# Altium integrated library National Semiconductor ADC.IntLib: 538 symbols (part 6 of 19)
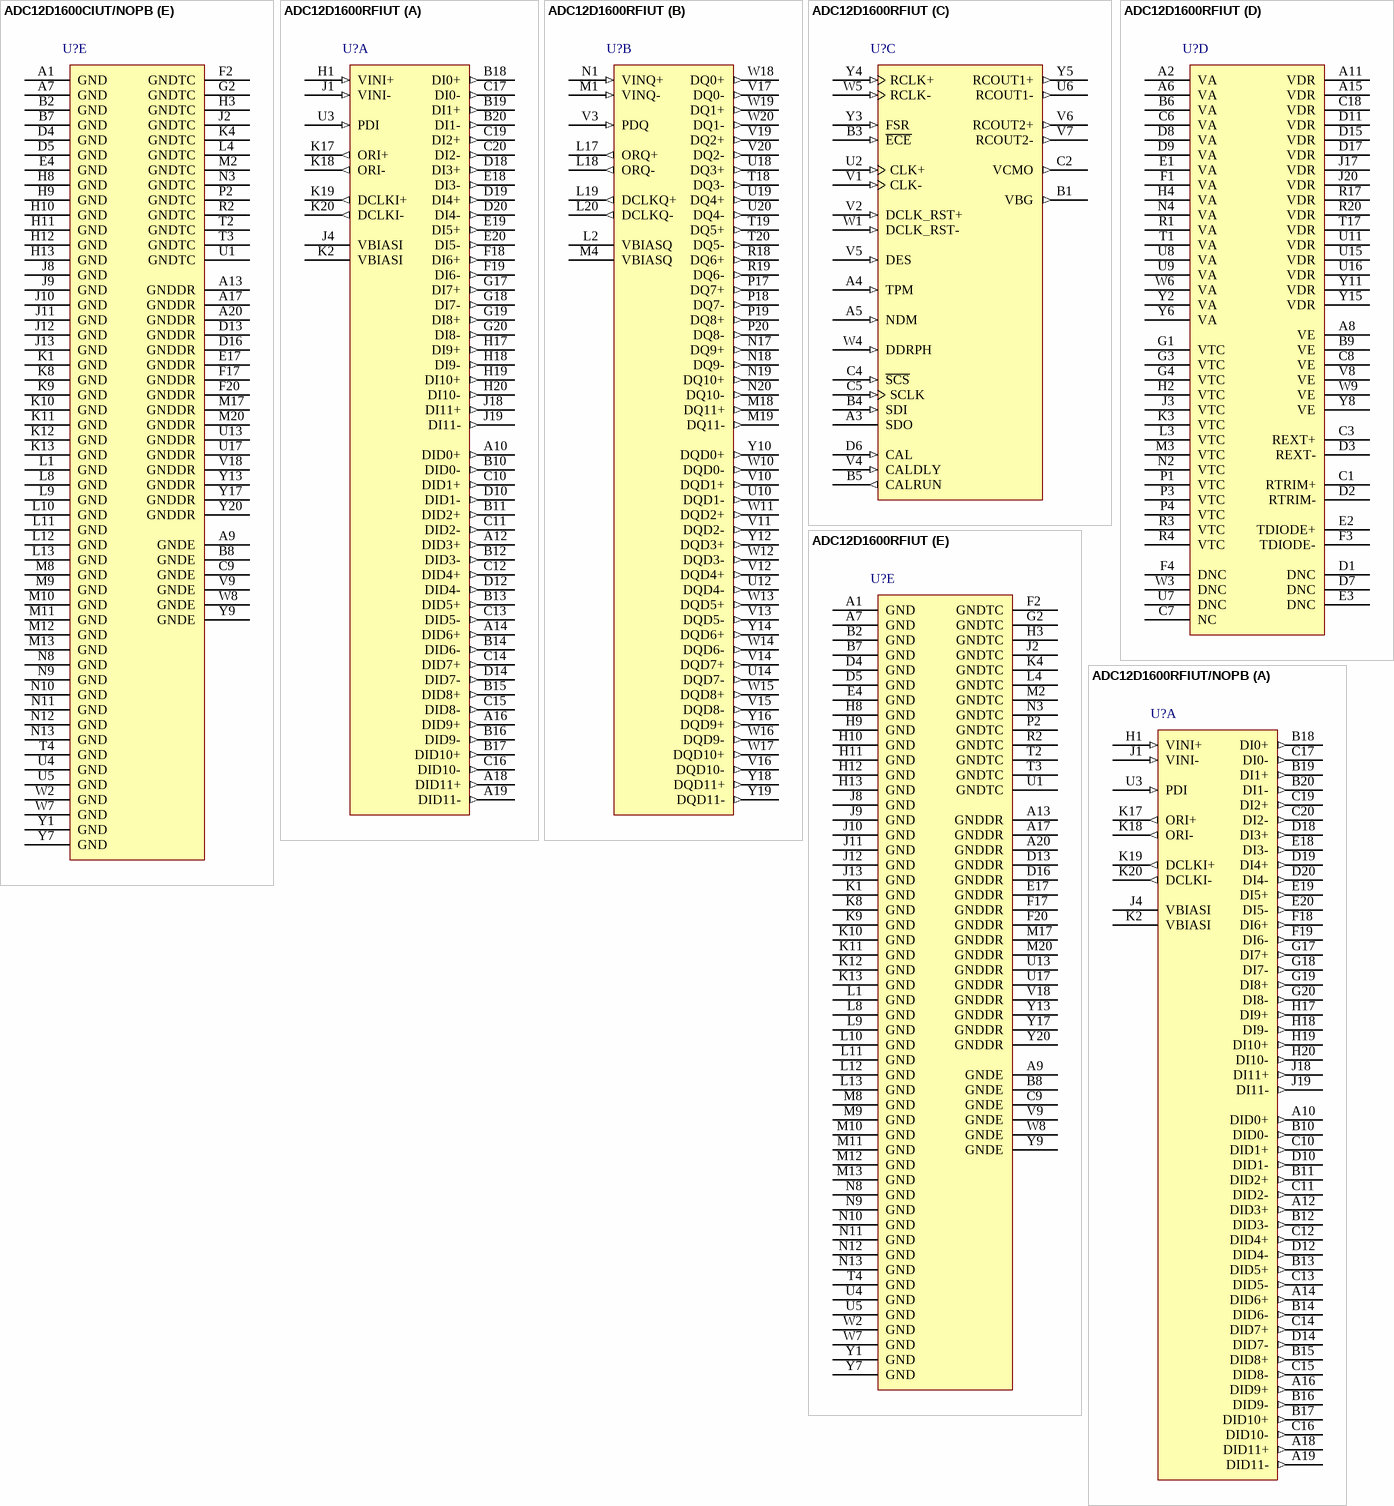
[diagram p50: symbols ADC12D1600CIUT/NOPB to ADC12D1600RFIUT/NOPB]

## ADC12D1600RFIUT
designator U?
12-Bit, 1.6 / 3.2 GSPS RF Sampling ADC, 292-pin TEPBGA; PartNumber: ADC12D1600RFIUT; Manufacturer: National Semiconductor; PackageTopMarking: NSUZXYYTTE#*ADC12D1600RFIUT; PowerWise: Y; CompType: ADC IC; DatasheetVersion: Apr-2013; PackageVersion: revA, Jul-2001; PackageReference: UFH292A; PackageDescription: TE-PBGA, 27 x 27 x 2.38mm, 292 Ball, 1.27mm Pitch; RoHS: N; PinCount: 292; Code_JEDEC: MS-034-BAL-2; ComponentLink1Description: ADC12D1600 Datasheet; ComponentLink1URL: http://www.ti.com/lit/ds/symlink/adc12d1600rf.pdf; ComponentLink2Description: ADC12D1600 Web Page; ComponentLink2URL: http://www.national.com/pf/AD/ADC12D1600.html; ComponentLink3Description: UFH292A Package Page; ComponentLink3URL: http://www.national.com/packaging/folders/ufh292a.html
footprint UFH292A (BGA, 292-Leads, Body 27x27mm, Pitch 1.27mm)
part A pins: A10 DID0+ (out), A12 DID3+ (out), A14 DID6+ (out), A16 DID9+ (out), A18 DID11+ (out), A19 DID11- (out), B10 DID0- (out), B11 DID2+ (out), B12 DID3- (out), B13 DID5+ (out), B14 DID6- (out), B15 DID8+ (out), B16 DID9- (out), B17 DID10+ (out), B18 DI0+ (out), B19 DI1+ (out), B20 DI1- (out), C10 DID1+ (out), C11 DID2- (out), C12 DID4+ (out), C13 DID5- (out), C14 DID7+ (out), C15 DID8- (out), C16 DID10- (out), C17 DI0- (out), C19 DI2+ (out), C20 DI2- (out), D10 DID1- (out), D12 DID4- (out), D14 DID7- (out), D18 DI3+ (out), D19 DI4+ (out), D20 DI4- (out), E18 DI3- (out), E19 DI5+ (out), E20 DI5- (out), F18 DI6+ (out), F19 DI6- (out), G17 DI7+ (out), G18 DI7- (out), G19 DI8+ (out), G20 DI8- (out), H1 VINI+ (in), H17 DI9+ (out), H18 DI9- (out), H19 DI10+ (out), H20 DI10- (out), J1 VINI- (in), J4 VBIASI, J18 DI11+ (out), J19 DI11- (out), K2 VBIASI, K17 ORI+ (out), K18 ORI- (out), K19 DCLKI+ (out), K20 DCLKI- (out), U3 PDI (in)
part B pins: L2 VBIASQ, L17 ORQ+ (out), L18 ORQ- (out), L19 DCLKQ+ (out), L20 DCLKQ- (out), M1 VINQ- (in), M4 VBIASQ, M18 DQ11+ (out), M19 DQ11- (out), N1 VINQ+ (in), N17 DQ9+ (out), N18 DQ9- (out), N19 DQ10+ (out), N20 DQ10- (out), P17 DQ7+ (out), P18 DQ7- (out), P19 DQ8+ (out), P20 DQ8- (out), R18 DQ6+ (out), R19 DQ6- (out), T18 DQ3- (out), T19 DQ5+ (out), T20 DQ5- (out), U10 DQD1- (out), U12 DQD4- (out), U14 DQD7- (out), U18 DQ3+ (out), U19 DQ4+ (out), U20 DQ4- (out), V3 PDQ (in), V10 DQD1+ (out), V11 DQD2- (out), V12 DQD4+ (out), V13 DQD5- (out), V14 DQD7+ (out), V15 DQD8- (out), V16 DQD10- (out), V17 DQ0- (out), V19 DQ2+ (out), V20 DQ2- (out), W10 DQD0- (out), W11 DQD2+ (out), W12 DQD3- (out), W13 DQD5+ (out), W14 DQD6- (out), W15 DQD8+ (out), W16 DQD9- (out), W17 DQD10+ (out), W18 DQ0+ (out), W19 DQ1+ (out), W20 DQ1- (out), Y10 DQD0+ (out), Y12 DQD3+ (out), Y14 DQD6+ (out), Y16 DQD9+ (out), Y18 DQD11+ (out), Y19 DQD11- (out)
part C pins: A3 SDO (oe), A4 TPM (in), A5 NDM (in), B1 VBG (out), B3 ~{ECE} (in), B4 SDI (in), B5 CALRUN (out), C2 VCMO (out), C4 ~{SCS} (in), C5 SCLK (in), D6 CAL (in), U2 CLK+ (in), U6 RCOUT1- (out), V1 CLK- (in), V2 DCLK_RST+ (in), V4 CALDLY (in), V5 DES (in), V6 RCOUT2+ (out), V7 RCOUT2- (out), W1 DCLK_RST- (in), W4 DDRPH (in), W5 RCLK- (in), Y3 FSR (in), Y4 RCLK+ (in), Y5 RCOUT1+ (out)
part D pins: A2 VA (power), A6 VA (power), A8 VE (power), A11 VDR (power), A15 VDR (power), B6 VA (power), B9 VE (power), C1 RTRIM+, C3 REXT+, C6 VA (power), C7 NC, C8 VE (power), C18 VDR (power), D1 DNC, D2 RTRIM-, D3 REXT-, D7 DNC, D8 VA (power), D9 VA (power), D11 VDR (power), D15 VDR (power), D17 VDR (power), E1 VA (power), E2 TDIODE+, E3 DNC, F1 VA (power), F3 TDIODE-, F4 DNC, G1 VTC (power), G3 VTC (power), G4 VTC (power), H2 VTC (power), H4 VA (power), J3 VTC (power), J17 VDR (power), J20 VDR (power), K3 VTC (power), L3 VTC (power), M3 VTC (power), N2 VTC (power), N4 VA (power), P1 VTC (power), P3 VTC (power), P4 VTC (power), R1 VA (power), R3 VTC (power), R4 VTC (power), R17 VDR (power), R20 VDR (power), T1 VA (power), T17 VDR (power), U7 DNC, U8 VA (power), U9 VA (power), U11 VDR (power), U15 VDR (power), U16 VDR (power), V8 VE (power), W3 DNC, W6 VA (power), W9 VE (power), Y2 VA (power), Y6 VA (power), Y8 VE (power), Y11 VDR (power), Y15 VDR (power)
part E pins: A1 GND (power), A7 GND (power), A9 GNDE (power), A13 GNDDR (power), A17 GNDDR (power), A20 GNDDR (power), B2 GND (power), B7 GND (power), B8 GNDE (power), C9 GNDE (power), D4 GND (power), D5 GND (power), D13 GNDDR (power), D16 GNDDR (power), E4 GND (power), E17 GNDDR (power), F2 GNDTC (power), F17 GNDDR (power), F20 GNDDR (power), G2 GNDTC (power), H3 GNDTC (power), H8 GND (power), H9 GND (power), H10 GND (power), H11 GND (power), H12 GND (power), H13 GND (power), J2 GNDTC (power), J8 GND (power), J9 GND (power), J10 GND (power), J11 GND (power), J12 GND (power), J13 GND (power), K1 GND (power), K4 GNDTC (power), K8 GND (power), K9 GND (power), K10 GND (power), K11 GND (power), K12 GND (power), K13 GND (power), L1 GND (power), L4 GNDTC (power), L8 GND (power), L9 GND (power), L10 GND (power), L11 GND (power), L12 GND (power), L13 GND (power), M2 GNDTC (power), M8 GND (power), M9 GND (power), M10 GND (power), M11 GND (power), M12 GND (power), M13 GND (power), M17 GNDDR (power), M20 GNDDR (power), N3 GNDTC (power), N8 GND (power), N9 GND (power), N10 GND (power), N11 GND (power), N12 GND (power), N13 GND (power), P2 GNDTC (power), R2 GNDTC (power), T2 GNDTC (power), T3 GNDTC (power), T4 GND (power), U1 GNDTC (power), U4 GND (power), U5 GND (power), U13 GNDDR (power), U17 GNDDR (power), V9 GNDE (power), V18 GNDDR (power), W2 GND (power), W7 GND (power), W8 GNDE (power), Y1 GND (power), Y7 GND (power), Y9 GNDE (power), Y13 GNDDR (power), Y17 GNDDR (power), Y20 GNDDR (power)

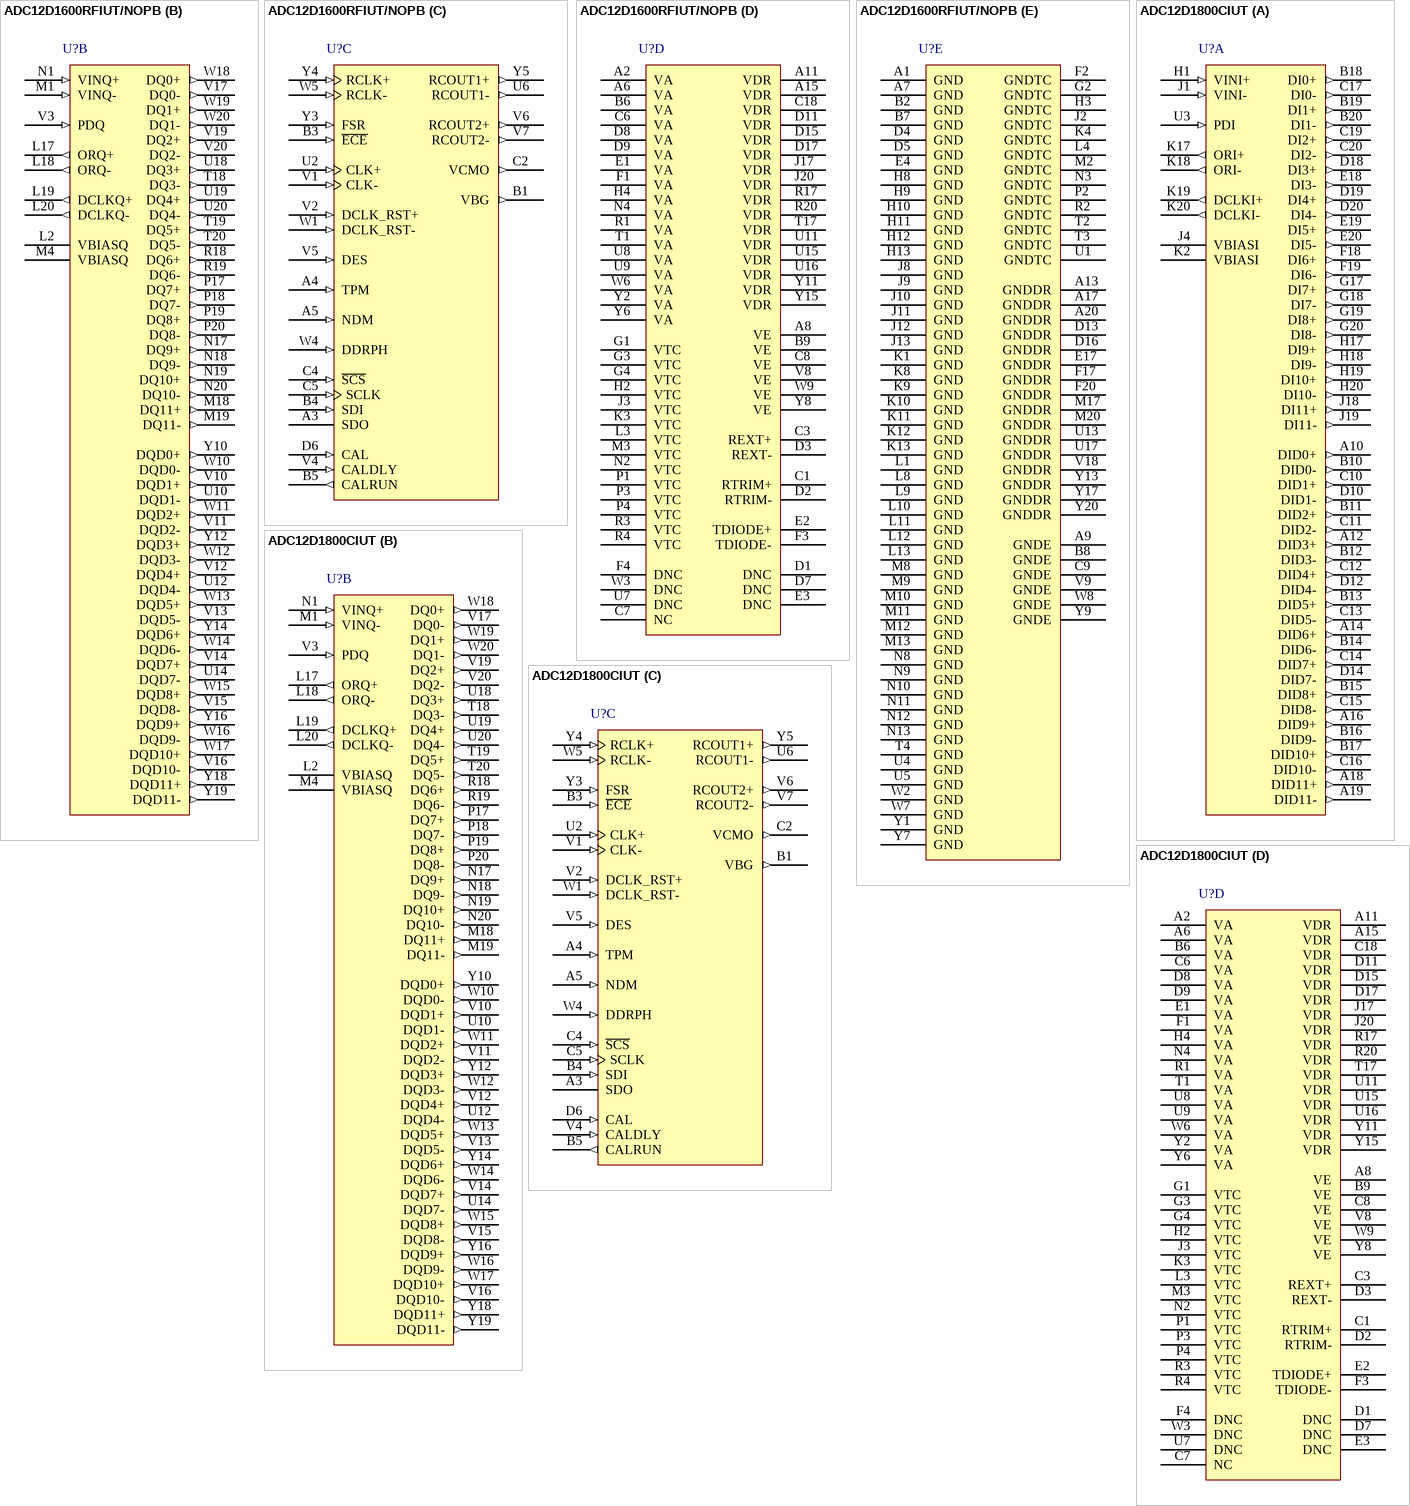
[diagram p21: symbols ADC12D1600RFIUT/NOPB to ADC12D1800CIUT]

## ADC12D1600RFIUT/NOPB
designator U?
12-Bit, 1.6 / 3.2 GSPS RF Sampling ADC, 292-pin TEPBGA; PartNumber: ADC12D1600RFIUT/NOPB; Manufacturer: National Semiconductor; PackageTopMarking: NSUZXYYTTE#*ADC12D1600RFIUT; PowerWise: Y; CompType: ADC IC; DatasheetVersion: Apr-2013; PackageVersion: revA, Jul-2001; PackageReference: UFH292A; PackageDescription: TE-PBGA, 27 x 27 x 2.38mm, 292 Ball, 1.27mm Pitch; RoHS: Y; PinCount: 292; Code_JEDEC: MS-034-BAL-2; ComponentLink1Description: ADC12D1600 Datasheet; ComponentLink1URL: http://www.ti.com/lit/ds/symlink/adc12d1600rf.pdf; ComponentLink2Description: ADC12D1600 Web Page; ComponentLink2URL: http://www.national.com/pf/AD/ADC12D1600.html; ComponentLink3Description: UFH292A Package Page; ComponentLink3URL: http://www.national.com/packaging/folders/ufh292a.html
footprint UFH292A (BGA, 292-Leads, Body 27x27mm, Pitch 1.27mm)
part A pins: A10 DID0+ (out), A12 DID3+ (out), A14 DID6+ (out), A16 DID9+ (out), A18 DID11+ (out), A19 DID11- (out), B10 DID0- (out), B11 DID2+ (out), B12 DID3- (out), B13 DID5+ (out), B14 DID6- (out), B15 DID8+ (out), B16 DID9- (out), B17 DID10+ (out), B18 DI0+ (out), B19 DI1+ (out), B20 DI1- (out), C10 DID1+ (out), C11 DID2- (out), C12 DID4+ (out), C13 DID5- (out), C14 DID7+ (out), C15 DID8- (out), C16 DID10- (out), C17 DI0- (out), C19 DI2+ (out), C20 DI2- (out), D10 DID1- (out), D12 DID4- (out), D14 DID7- (out), D18 DI3+ (out), D19 DI4+ (out), D20 DI4- (out), E18 DI3- (out), E19 DI5+ (out), E20 DI5- (out), F18 DI6+ (out), F19 DI6- (out), G17 DI7+ (out), G18 DI7- (out), G19 DI8+ (out), G20 DI8- (out), H1 VINI+ (in), H17 DI9+ (out), H18 DI9- (out), H19 DI10+ (out), H20 DI10- (out), J1 VINI- (in), J4 VBIASI, J18 DI11+ (out), J19 DI11- (out), K2 VBIASI, K17 ORI+ (out), K18 ORI- (out), K19 DCLKI+ (out), K20 DCLKI- (out), U3 PDI (in)
part B pins: L2 VBIASQ, L17 ORQ+ (out), L18 ORQ- (out), L19 DCLKQ+ (out), L20 DCLKQ- (out), M1 VINQ- (in), M4 VBIASQ, M18 DQ11+ (out), M19 DQ11- (out), N1 VINQ+ (in), N17 DQ9+ (out), N18 DQ9- (out), N19 DQ10+ (out), N20 DQ10- (out), P17 DQ7+ (out), P18 DQ7- (out), P19 DQ8+ (out), P20 DQ8- (out), R18 DQ6+ (out), R19 DQ6- (out), T18 DQ3- (out), T19 DQ5+ (out), T20 DQ5- (out), U10 DQD1- (out), U12 DQD4- (out), U14 DQD7- (out), U18 DQ3+ (out), U19 DQ4+ (out), U20 DQ4- (out), V3 PDQ (in), V10 DQD1+ (out), V11 DQD2- (out), V12 DQD4+ (out), V13 DQD5- (out), V14 DQD7+ (out), V15 DQD8- (out), V16 DQD10- (out), V17 DQ0- (out), V19 DQ2+ (out), V20 DQ2- (out), W10 DQD0- (out), W11 DQD2+ (out), W12 DQD3- (out), W13 DQD5+ (out), W14 DQD6- (out), W15 DQD8+ (out), W16 DQD9- (out), W17 DQD10+ (out), W18 DQ0+ (out), W19 DQ1+ (out), W20 DQ1- (out), Y10 DQD0+ (out), Y12 DQD3+ (out), Y14 DQD6+ (out), Y16 DQD9+ (out), Y18 DQD11+ (out), Y19 DQD11- (out)
part C pins: A3 SDO (oe), A4 TPM (in), A5 NDM (in), B1 VBG (out), B3 ~{ECE} (in), B4 SDI (in), B5 CALRUN (out), C2 VCMO (out), C4 ~{SCS} (in), C5 SCLK (in), D6 CAL (in), U2 CLK+ (in), U6 RCOUT1- (out), V1 CLK- (in), V2 DCLK_RST+ (in), V4 CALDLY (in), V5 DES (in), V6 RCOUT2+ (out), V7 RCOUT2- (out), W1 DCLK_RST- (in), W4 DDRPH (in), W5 RCLK- (in), Y3 FSR (in), Y4 RCLK+ (in), Y5 RCOUT1+ (out)
part D pins: A2 VA (power), A6 VA (power), A8 VE (power), A11 VDR (power), A15 VDR (power), B6 VA (power), B9 VE (power), C1 RTRIM+, C3 REXT+, C6 VA (power), C7 NC, C8 VE (power), C18 VDR (power), D1 DNC, D2 RTRIM-, D3 REXT-, D7 DNC, D8 VA (power), D9 VA (power), D11 VDR (power), D15 VDR (power), D17 VDR (power), E1 VA (power), E2 TDIODE+, E3 DNC, F1 VA (power), F3 TDIODE-, F4 DNC, G1 VTC (power), G3 VTC (power), G4 VTC (power), H2 VTC (power), H4 VA (power), J3 VTC (power), J17 VDR (power), J20 VDR (power), K3 VTC (power), L3 VTC (power), M3 VTC (power), N2 VTC (power), N4 VA (power), P1 VTC (power), P3 VTC (power), P4 VTC (power), R1 VA (power), R3 VTC (power), R4 VTC (power), R17 VDR (power), R20 VDR (power), T1 VA (power), T17 VDR (power), U7 DNC, U8 VA (power), U9 VA (power), U11 VDR (power), U15 VDR (power), U16 VDR (power), V8 VE (power), W3 DNC, W6 VA (power), W9 VE (power), Y2 VA (power), Y6 VA (power), Y8 VE (power), Y11 VDR (power), Y15 VDR (power)
part E pins: A1 GND (power), A7 GND (power), A9 GNDE (power), A13 GNDDR (power), A17 GNDDR (power), A20 GNDDR (power), B2 GND (power), B7 GND (power), B8 GNDE (power), C9 GNDE (power), D4 GND (power), D5 GND (power), D13 GNDDR (power), D16 GNDDR (power), E4 GND (power), E17 GNDDR (power), F2 GNDTC (power), F17 GNDDR (power), F20 GNDDR (power), G2 GNDTC (power), H3 GNDTC (power), H8 GND (power), H9 GND (power), H10 GND (power), H11 GND (power), H12 GND (power), H13 GND (power), J2 GNDTC (power), J8 GND (power), J9 GND (power), J10 GND (power), J11 GND (power), J12 GND (power), J13 GND (power), K1 GND (power), K4 GNDTC (power), K8 GND (power), K9 GND (power), K10 GND (power), K11 GND (power), K12 GND (power), K13 GND (power), L1 GND (power), L4 GNDTC (power), L8 GND (power), L9 GND (power), L10 GND (power), L11 GND (power), L12 GND (power), L13 GND (power), M2 GNDTC (power), M8 GND (power), M9 GND (power), M10 GND (power), M11 GND (power), M12 GND (power), M13 GND (power), M17 GNDDR (power), M20 GNDDR (power), N3 GNDTC (power), N8 GND (power), N9 GND (power), N10 GND (power), N11 GND (power), N12 GND (power), N13 GND (power), P2 GNDTC (power), R2 GNDTC (power), T2 GNDTC (power), T3 GNDTC (power), T4 GND (power), U1 GNDTC (power), U4 GND (power), U5 GND (power), U13 GNDDR (power), U17 GNDDR (power), V9 GNDE (power), V18 GNDDR (power), W2 GND (power), W7 GND (power), W8 GNDE (power), Y1 GND (power), Y7 GND (power), Y9 GNDE (power), Y13 GNDDR (power), Y17 GNDDR (power), Y20 GNDDR (power)

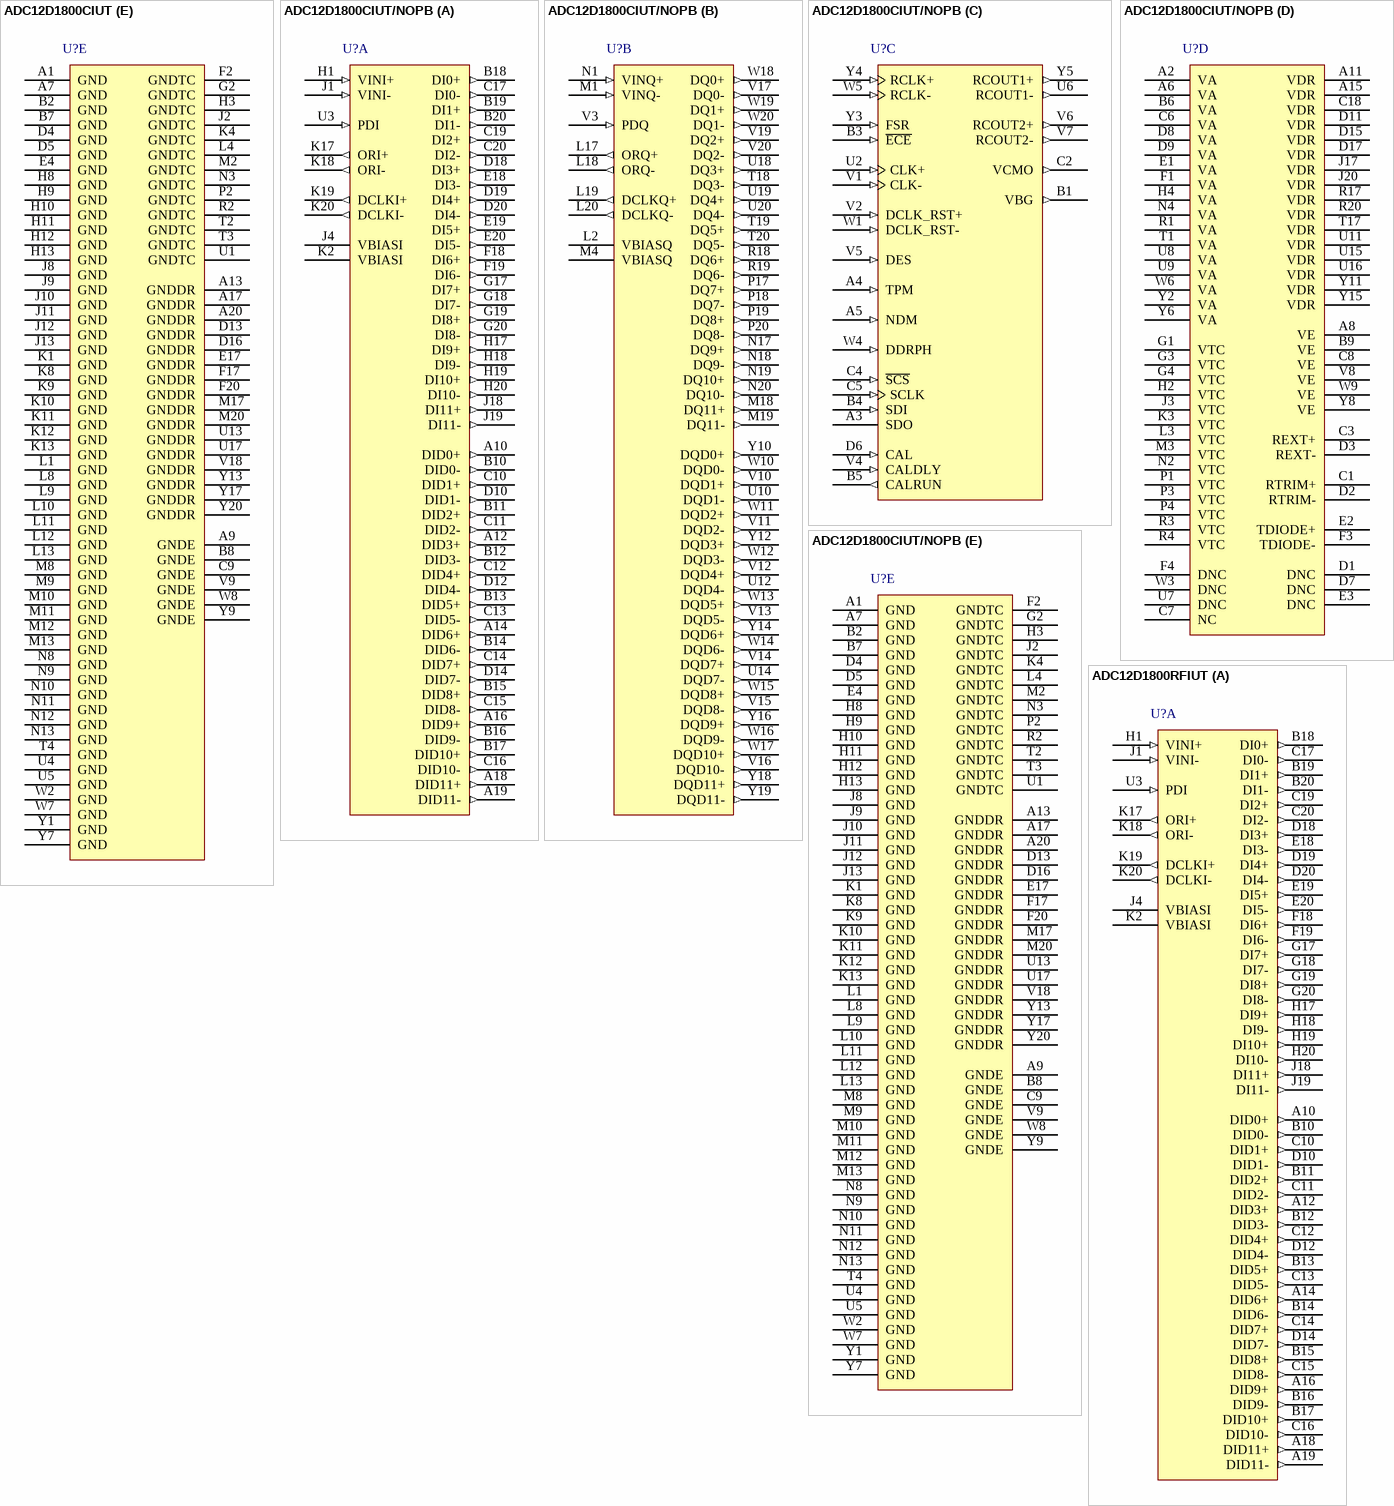
[diagram p22: symbols ADC12D1800CIUT to ADC12D1800RFIUT]

## ADC12D1800CIUT
designator U?
12-Bit, Single 3.6 GSPS Ultra High-Speed ADC, 292-pin TEPBGA; PartNumber: ADC12D1800CIUT; Manufacturer: National Semiconductor; PackageTopMarking: NSUZXYYTTE#*ADC12D1800CIUT; PowerWise: Y; CompType: ADC IC; DatasheetVersion: Mar-2013; PackageVersion: revA, Jul-2001; PackageReference: UFH292A; PackageDescription: TE-PBGA, 27 x 27 x 2.38mm, 292 Ball, 1.27mm Pitch; RoHS: N; PinCount: 292; High-Reliability: Y; Code_JEDEC: MS-034-BAL-2; ComponentLink1Description: ADC12D1800 Datasheet; ComponentLink1URL: http://www.ti.com/lit/ds/symlink/adc12d1800.pdf; ComponentLink2Description: ADC12D1800 Web Page; ComponentLink2URL: http://www.national.com/pf/AD/ADC12D1800.html; ComponentLink3Description: UFH292A Package Page; ComponentLink3URL: http://www.national.com/packaging/folders/ufh292a.html
footprint UFH292A (BGA, 292-Leads, Body 27x27mm, Pitch 1.27mm)
part A pins: A10 DID0+ (out), A12 DID3+ (out), A14 DID6+ (out), A16 DID9+ (out), A18 DID11+ (out), A19 DID11- (out), B10 DID0- (out), B11 DID2+ (out), B12 DID3- (out), B13 DID5+ (out), B14 DID6- (out), B15 DID8+ (out), B16 DID9- (out), B17 DID10+ (out), B18 DI0+ (out), B19 DI1+ (out), B20 DI1- (out), C10 DID1+ (out), C11 DID2- (out), C12 DID4+ (out), C13 DID5- (out), C14 DID7+ (out), C15 DID8- (out), C16 DID10- (out), C17 DI0- (out), C19 DI2+ (out), C20 DI2- (out), D10 DID1- (out), D12 DID4- (out), D14 DID7- (out), D18 DI3+ (out), D19 DI4+ (out), D20 DI4- (out), E18 DI3- (out), E19 DI5+ (out), E20 DI5- (out), F18 DI6+ (out), F19 DI6- (out), G17 DI7+ (out), G18 DI7- (out), G19 DI8+ (out), G20 DI8- (out), H1 VINI+ (in), H17 DI9+ (out), H18 DI9- (out), H19 DI10+ (out), H20 DI10- (out), J1 VINI- (in), J4 VBIASI, J18 DI11+ (out), J19 DI11- (out), K2 VBIASI, K17 ORI+ (out), K18 ORI- (out), K19 DCLKI+ (out), K20 DCLKI- (out), U3 PDI (in)
part B pins: L2 VBIASQ, L17 ORQ+ (out), L18 ORQ- (out), L19 DCLKQ+ (out), L20 DCLKQ- (out), M1 VINQ- (in), M4 VBIASQ, M18 DQ11+ (out), M19 DQ11- (out), N1 VINQ+ (in), N17 DQ9+ (out), N18 DQ9- (out), N19 DQ10+ (out), N20 DQ10- (out), P17 DQ7+ (out), P18 DQ7- (out), P19 DQ8+ (out), P20 DQ8- (out), R18 DQ6+ (out), R19 DQ6- (out), T18 DQ3- (out), T19 DQ5+ (out), T20 DQ5- (out), U10 DQD1- (out), U12 DQD4- (out), U14 DQD7- (out), U18 DQ3+ (out), U19 DQ4+ (out), U20 DQ4- (out), V3 PDQ (in), V10 DQD1+ (out), V11 DQD2- (out), V12 DQD4+ (out), V13 DQD5- (out), V14 DQD7+ (out), V15 DQD8- (out), V16 DQD10- (out), V17 DQ0- (out), V19 DQ2+ (out), V20 DQ2- (out), W10 DQD0- (out), W11 DQD2+ (out), W12 DQD3- (out), W13 DQD5+ (out), W14 DQD6- (out), W15 DQD8+ (out), W16 DQD9- (out), W17 DQD10+ (out), W18 DQ0+ (out), W19 DQ1+ (out), W20 DQ1- (out), Y10 DQD0+ (out), Y12 DQD3+ (out), Y14 DQD6+ (out), Y16 DQD9+ (out), Y18 DQD11+ (out), Y19 DQD11- (out)
part C pins: A3 SDO (oe), A4 TPM (in), A5 NDM (in), B1 VBG (out), B3 ~{ECE} (in), B4 SDI (in), B5 CALRUN (out), C2 VCMO (out), C4 ~{SCS} (in), C5 SCLK (in), D6 CAL (in), U2 CLK+ (in), U6 RCOUT1- (out), V1 CLK- (in), V2 DCLK_RST+ (in), V4 CALDLY (in), V5 DES (in), V6 RCOUT2+ (out), V7 RCOUT2- (out), W1 DCLK_RST- (in), W4 DDRPH (in), W5 RCLK- (in), Y3 FSR (in), Y4 RCLK+ (in), Y5 RCOUT1+ (out)
part D pins: A2 VA (power), A6 VA (power), A8 VE (power), A11 VDR (power), A15 VDR (power), B6 VA (power), B9 VE (power), C1 RTRIM+, C3 REXT+, C6 VA (power), C7 NC, C8 VE (power), C18 VDR (power), D1 DNC, D2 RTRIM-, D3 REXT-, D7 DNC, D8 VA (power), D9 VA (power), D11 VDR (power), D15 VDR (power), D17 VDR (power), E1 VA (power), E2 TDIODE+, E3 DNC, F1 VA (power), F3 TDIODE-, F4 DNC, G1 VTC (power), G3 VTC (power), G4 VTC (power), H2 VTC (power), H4 VA (power), J3 VTC (power), J17 VDR (power), J20 VDR (power), K3 VTC (power), L3 VTC (power), M3 VTC (power), N2 VTC (power), N4 VA (power), P1 VTC (power), P3 VTC (power), P4 VTC (power), R1 VA (power), R3 VTC (power), R4 VTC (power), R17 VDR (power), R20 VDR (power), T1 VA (power), T17 VDR (power), U7 DNC, U8 VA (power), U9 VA (power), U11 VDR (power), U15 VDR (power), U16 VDR (power), V8 VE (power), W3 DNC, W6 VA (power), W9 VE (power), Y2 VA (power), Y6 VA (power), Y8 VE (power), Y11 VDR (power), Y15 VDR (power)
part E pins: A1 GND (power), A7 GND (power), A9 GNDE (power), A13 GNDDR (power), A17 GNDDR (power), A20 GNDDR (power), B2 GND (power), B7 GND (power), B8 GNDE (power), C9 GNDE (power), D4 GND (power), D5 GND (power), D13 GNDDR (power), D16 GNDDR (power), E4 GND (power), E17 GNDDR (power), F2 GNDTC (power), F17 GNDDR (power), F20 GNDDR (power), G2 GNDTC (power), H3 GNDTC (power), H8 GND (power), H9 GND (power), H10 GND (power), H11 GND (power), H12 GND (power), H13 GND (power), J2 GNDTC (power), J8 GND (power), J9 GND (power), J10 GND (power), J11 GND (power), J12 GND (power), J13 GND (power), K1 GND (power), K4 GNDTC (power), K8 GND (power), K9 GND (power), K10 GND (power), K11 GND (power), K12 GND (power), K13 GND (power), L1 GND (power), L4 GNDTC (power), L8 GND (power), L9 GND (power), L10 GND (power), L11 GND (power), L12 GND (power), L13 GND (power), M2 GNDTC (power), M8 GND (power), M9 GND (power), M10 GND (power), M11 GND (power), M12 GND (power), M13 GND (power), M17 GNDDR (power), M20 GNDDR (power), N3 GNDTC (power), N8 GND (power), N9 GND (power), N10 GND (power), N11 GND (power), N12 GND (power), N13 GND (power), P2 GNDTC (power), R2 GNDTC (power), T2 GNDTC (power), T3 GNDTC (power), T4 GND (power), U1 GNDTC (power), U4 GND (power), U5 GND (power), U13 GNDDR (power), U17 GNDDR (power), V9 GNDE (power), V18 GNDDR (power), W2 GND (power), W7 GND (power), W8 GNDE (power), Y1 GND (power), Y7 GND (power), Y9 GNDE (power), Y13 GNDDR (power), Y17 GNDDR (power), Y20 GNDDR (power)

## ADC12D1800CIUT/NOPB
designator U?
12-Bit, Single 3.6 GSPS Ultra High-Speed ADC, 292-pin TEPBGA, Pb-Free; PartNumber: ADC12D1800CIUT/NOPB; Manufacturer: National Semiconductor; PackageTopMarking: NSUZXYYTTE#*ADC12D1800CIUT; PowerWise: Y; CompType: ADC IC; DatasheetVersion: Mar-2013; PackageVersion: revA, Jul-2001; PackageReference: UFH292A; PackageDescription: TE-PBGA, 27 x 27 x 2.38mm, 292 Ball, 1.27mm Pitch; RoHS: Y; PinCount: 292; High-Reliability: Y; Code_JEDEC: MS-034-BAL-2; ComponentLink1Description: ADC12D1800 Datasheet; ComponentLink1URL: http://www.ti.com/lit/ds/symlink/adc12d1800.pdf; ComponentLink2Description: ADC12D1800 Web Page; ComponentLink2URL: http://www.national.com/pf/AD/ADC12D1800.html; ComponentLink3Description: UFH292A Package Page; ComponentLink3URL: http://www.national.com/packaging/folders/ufh292a.html
footprint UFH292A (BGA, 292-Leads, Body 27x27mm, Pitch 1.27mm)
part A pins: A10 DID0+ (out), A12 DID3+ (out), A14 DID6+ (out), A16 DID9+ (out), A18 DID11+ (out), A19 DID11- (out), B10 DID0- (out), B11 DID2+ (out), B12 DID3- (out), B13 DID5+ (out), B14 DID6- (out), B15 DID8+ (out), B16 DID9- (out), B17 DID10+ (out), B18 DI0+ (out), B19 DI1+ (out), B20 DI1- (out), C10 DID1+ (out), C11 DID2- (out), C12 DID4+ (out), C13 DID5- (out), C14 DID7+ (out), C15 DID8- (out), C16 DID10- (out), C17 DI0- (out), C19 DI2+ (out), C20 DI2- (out), D10 DID1- (out), D12 DID4- (out), D14 DID7- (out), D18 DI3+ (out), D19 DI4+ (out), D20 DI4- (out), E18 DI3- (out), E19 DI5+ (out), E20 DI5- (out), F18 DI6+ (out), F19 DI6- (out), G17 DI7+ (out), G18 DI7- (out), G19 DI8+ (out), G20 DI8- (out), H1 VINI+ (in), H17 DI9+ (out), H18 DI9- (out), H19 DI10+ (out), H20 DI10- (out), J1 VINI- (in), J4 VBIASI, J18 DI11+ (out), J19 DI11- (out), K2 VBIASI, K17 ORI+ (out), K18 ORI- (out), K19 DCLKI+ (out), K20 DCLKI- (out), U3 PDI (in)
part B pins: L2 VBIASQ, L17 ORQ+ (out), L18 ORQ- (out), L19 DCLKQ+ (out), L20 DCLKQ- (out), M1 VINQ- (in), M4 VBIASQ, M18 DQ11+ (out), M19 DQ11- (out), N1 VINQ+ (in), N17 DQ9+ (out), N18 DQ9- (out), N19 DQ10+ (out), N20 DQ10- (out), P17 DQ7+ (out), P18 DQ7- (out), P19 DQ8+ (out), P20 DQ8- (out), R18 DQ6+ (out), R19 DQ6- (out), T18 DQ3- (out), T19 DQ5+ (out), T20 DQ5- (out), U10 DQD1- (out), U12 DQD4- (out), U14 DQD7- (out), U18 DQ3+ (out), U19 DQ4+ (out), U20 DQ4- (out), V3 PDQ (in), V10 DQD1+ (out), V11 DQD2- (out), V12 DQD4+ (out), V13 DQD5- (out), V14 DQD7+ (out), V15 DQD8- (out), V16 DQD10- (out), V17 DQ0- (out), V19 DQ2+ (out), V20 DQ2- (out), W10 DQD0- (out), W11 DQD2+ (out), W12 DQD3- (out), W13 DQD5+ (out), W14 DQD6- (out), W15 DQD8+ (out), W16 DQD9- (out), W17 DQD10+ (out), W18 DQ0+ (out), W19 DQ1+ (out), W20 DQ1- (out), Y10 DQD0+ (out), Y12 DQD3+ (out), Y14 DQD6+ (out), Y16 DQD9+ (out), Y18 DQD11+ (out), Y19 DQD11- (out)
part C pins: A3 SDO (oe), A4 TPM (in), A5 NDM (in), B1 VBG (out), B3 ~{ECE} (in), B4 SDI (in), B5 CALRUN (out), C2 VCMO (out), C4 ~{SCS} (in), C5 SCLK (in), D6 CAL (in), U2 CLK+ (in), U6 RCOUT1- (out), V1 CLK- (in), V2 DCLK_RST+ (in), V4 CALDLY (in), V5 DES (in), V6 RCOUT2+ (out), V7 RCOUT2- (out), W1 DCLK_RST- (in), W4 DDRPH (in), W5 RCLK- (in), Y3 FSR (in), Y4 RCLK+ (in), Y5 RCOUT1+ (out)
part D pins: A2 VA (power), A6 VA (power), A8 VE (power), A11 VDR (power), A15 VDR (power), B6 VA (power), B9 VE (power), C1 RTRIM+, C3 REXT+, C6 VA (power), C7 NC, C8 VE (power), C18 VDR (power), D1 DNC, D2 RTRIM-, D3 REXT-, D7 DNC, D8 VA (power), D9 VA (power), D11 VDR (power), D15 VDR (power), D17 VDR (power), E1 VA (power), E2 TDIODE+, E3 DNC, F1 VA (power), F3 TDIODE-, F4 DNC, G1 VTC (power), G3 VTC (power), G4 VTC (power), H2 VTC (power), H4 VA (power), J3 VTC (power), J17 VDR (power), J20 VDR (power), K3 VTC (power), L3 VTC (power), M3 VTC (power), N2 VTC (power), N4 VA (power), P1 VTC (power), P3 VTC (power), P4 VTC (power), R1 VA (power), R3 VTC (power), R4 VTC (power), R17 VDR (power), R20 VDR (power), T1 VA (power), T17 VDR (power), U7 DNC, U8 VA (power), U9 VA (power), U11 VDR (power), U15 VDR (power), U16 VDR (power), V8 VE (power), W3 DNC, W6 VA (power), W9 VE (power), Y2 VA (power), Y6 VA (power), Y8 VE (power), Y11 VDR (power), Y15 VDR (power)
part E pins: A1 GND (power), A7 GND (power), A9 GNDE (power), A13 GNDDR (power), A17 GNDDR (power), A20 GNDDR (power), B2 GND (power), B7 GND (power), B8 GNDE (power), C9 GNDE (power), D4 GND (power), D5 GND (power), D13 GNDDR (power), D16 GNDDR (power), E4 GND (power), E17 GNDDR (power), F2 GNDTC (power), F17 GNDDR (power), F20 GNDDR (power), G2 GNDTC (power), H3 GNDTC (power), H8 GND (power), H9 GND (power), H10 GND (power), H11 GND (power), H12 GND (power), H13 GND (power), J2 GNDTC (power), J8 GND (power), J9 GND (power), J10 GND (power), J11 GND (power), J12 GND (power), J13 GND (power), K1 GND (power), K4 GNDTC (power), K8 GND (power), K9 GND (power), K10 GND (power), K11 GND (power), K12 GND (power), K13 GND (power), L1 GND (power), L4 GNDTC (power), L8 GND (power), L9 GND (power), L10 GND (power), L11 GND (power), L12 GND (power), L13 GND (power), M2 GNDTC (power), M8 GND (power), M9 GND (power), M10 GND (power), M11 GND (power), M12 GND (power), M13 GND (power), M17 GNDDR (power), M20 GNDDR (power), N3 GNDTC (power), N8 GND (power), N9 GND (power), N10 GND (power), N11 GND (power), N12 GND (power), N13 GND (power), P2 GNDTC (power), R2 GNDTC (power), T2 GNDTC (power), T3 GNDTC (power), T4 GND (power), U1 GNDTC (power), U4 GND (power), U5 GND (power), U13 GNDDR (power), U17 GNDDR (power), V9 GNDE (power), V18 GNDDR (power), W2 GND (power), W7 GND (power), W8 GNDE (power), Y1 GND (power), Y7 GND (power), Y9 GNDE (power), Y13 GNDDR (power), Y17 GNDDR (power), Y20 GNDDR (power)

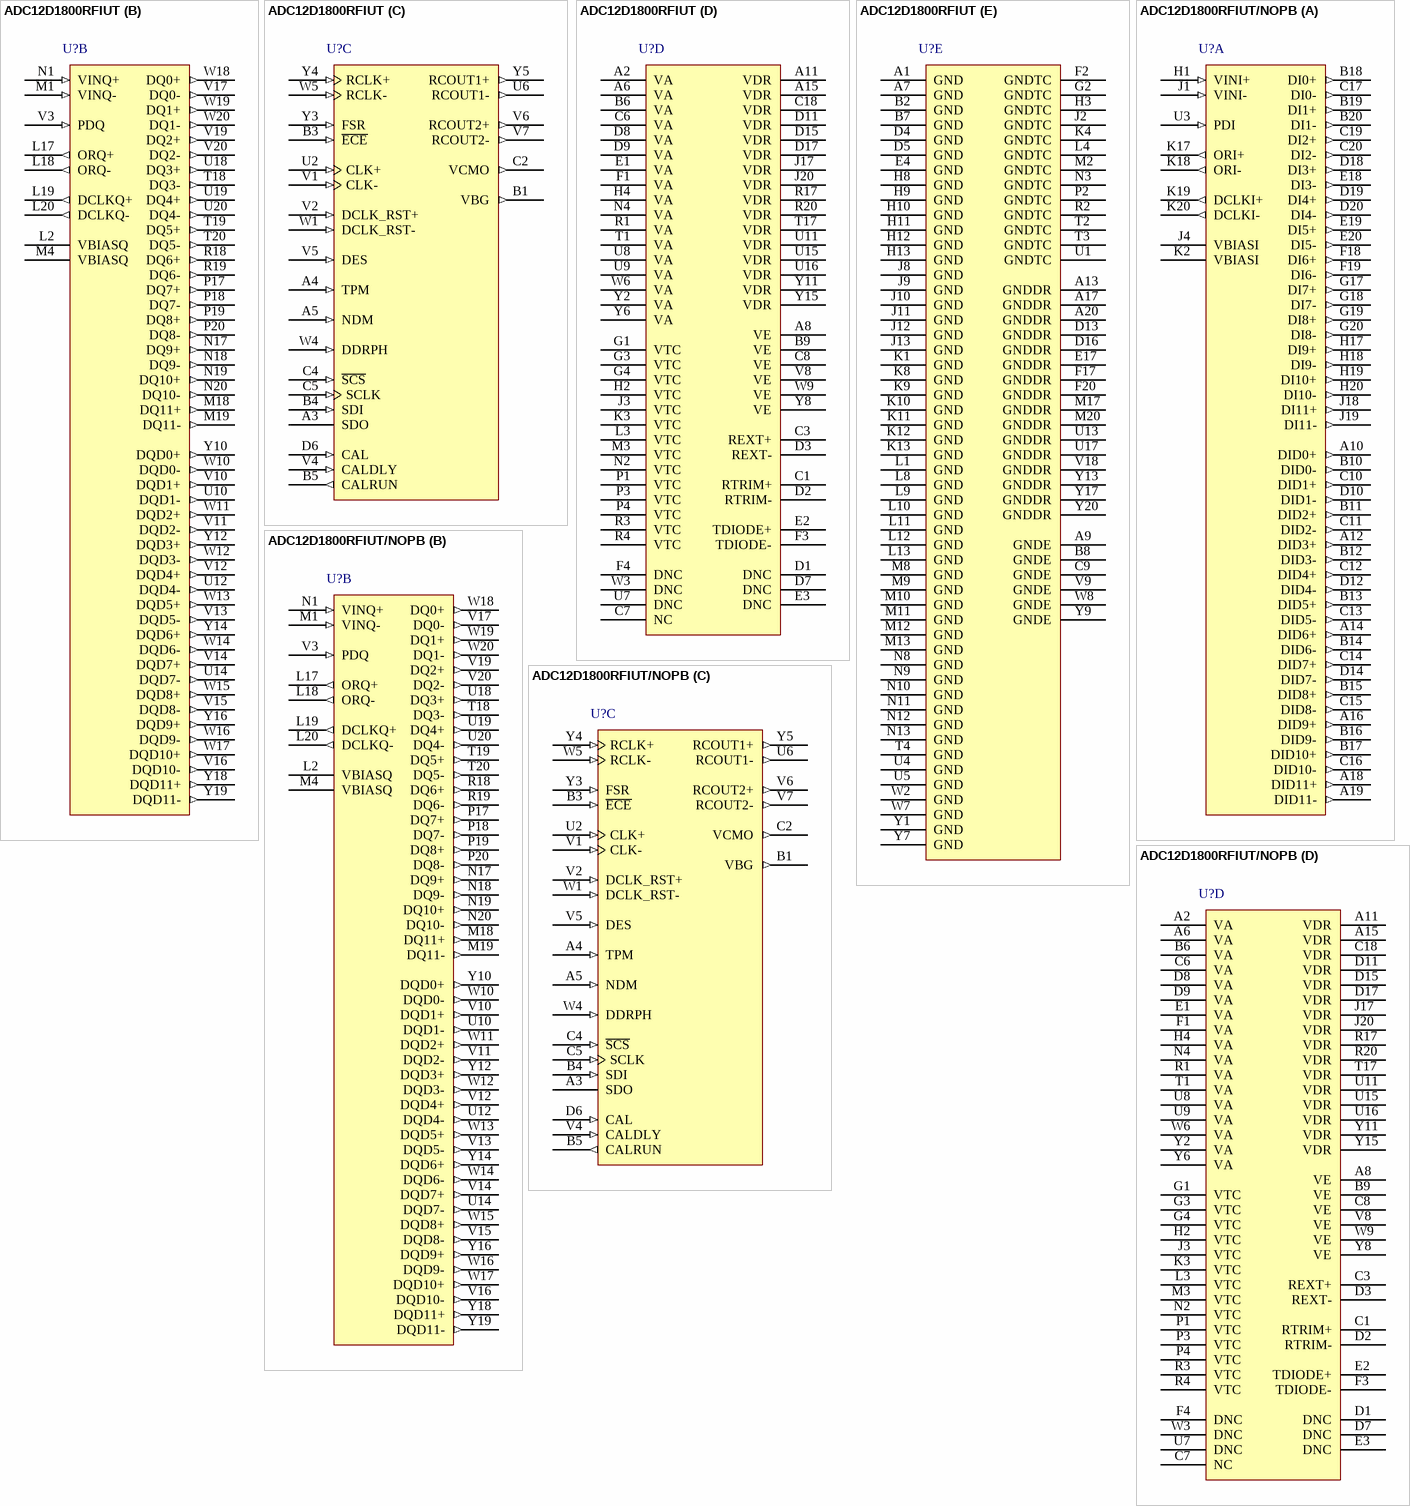
[diagram p23: symbols ADC12D1800RFIUT to ADC12D1800RFIUT/NOPB]

## ADC12D1800RFIUT
designator U?
12-Bit, Single 3.6 GSPS RF Sampling ADC, 292-pin TEPBGA; PartNumber: ADC12D1800RFIUT; Manufacturer: National Semiconductor; PackageTopMarking: NSUZXYYTTE#*ADC12D1800RFIUT; PowerWise: Y; CompType: ADC IC; DatasheetVersion: Apr-2013; PackageVersion: revA, Jul-2001; PackageReference: UFH292A; PackageDescription: TE-PBGA, 27 x 27 x 2.38mm, 292 Ball, 1.27mm Pitch; RoHS: N; PinCount: 292; Code_JEDEC: MS-034-BAL-2; ComponentLink1Description: ADC12D1800 Datasheet; ComponentLink1URL: http://www.ti.com/lit/ds/symlink/adc12d1800rf.pdf; ComponentLink2Description: ADC12D1800 Web Page; ComponentLink2URL: http://www.national.com/pf/AD/ADC12D1800.html; ComponentLink3Description: UFH292A Package Page; ComponentLink3URL: http://www.national.com/packaging/folders/ufh292a.html
footprint UFH292A (BGA, 292-Leads, Body 27x27mm, Pitch 1.27mm)
part A pins: A10 DID0+ (out), A12 DID3+ (out), A14 DID6+ (out), A16 DID9+ (out), A18 DID11+ (out), A19 DID11- (out), B10 DID0- (out), B11 DID2+ (out), B12 DID3- (out), B13 DID5+ (out), B14 DID6- (out), B15 DID8+ (out), B16 DID9- (out), B17 DID10+ (out), B18 DI0+ (out), B19 DI1+ (out), B20 DI1- (out), C10 DID1+ (out), C11 DID2- (out), C12 DID4+ (out), C13 DID5- (out), C14 DID7+ (out), C15 DID8- (out), C16 DID10- (out), C17 DI0- (out), C19 DI2+ (out), C20 DI2- (out), D10 DID1- (out), D12 DID4- (out), D14 DID7- (out), D18 DI3+ (out), D19 DI4+ (out), D20 DI4- (out), E18 DI3- (out), E19 DI5+ (out), E20 DI5- (out), F18 DI6+ (out), F19 DI6- (out), G17 DI7+ (out), G18 DI7- (out), G19 DI8+ (out), G20 DI8- (out), H1 VINI+ (in), H17 DI9+ (out), H18 DI9- (out), H19 DI10+ (out), H20 DI10- (out), J1 VINI- (in), J4 VBIASI, J18 DI11+ (out), J19 DI11- (out), K2 VBIASI, K17 ORI+ (out), K18 ORI- (out), K19 DCLKI+ (out), K20 DCLKI- (out), U3 PDI (in)
part B pins: L2 VBIASQ, L17 ORQ+ (out), L18 ORQ- (out), L19 DCLKQ+ (out), L20 DCLKQ- (out), M1 VINQ- (in), M4 VBIASQ, M18 DQ11+ (out), M19 DQ11- (out), N1 VINQ+ (in), N17 DQ9+ (out), N18 DQ9- (out), N19 DQ10+ (out), N20 DQ10- (out), P17 DQ7+ (out), P18 DQ7- (out), P19 DQ8+ (out), P20 DQ8- (out), R18 DQ6+ (out), R19 DQ6- (out), T18 DQ3- (out), T19 DQ5+ (out), T20 DQ5- (out), U10 DQD1- (out), U12 DQD4- (out), U14 DQD7- (out), U18 DQ3+ (out), U19 DQ4+ (out), U20 DQ4- (out), V3 PDQ (in), V10 DQD1+ (out), V11 DQD2- (out), V12 DQD4+ (out), V13 DQD5- (out), V14 DQD7+ (out), V15 DQD8- (out), V16 DQD10- (out), V17 DQ0- (out), V19 DQ2+ (out), V20 DQ2- (out), W10 DQD0- (out), W11 DQD2+ (out), W12 DQD3- (out), W13 DQD5+ (out), W14 DQD6- (out), W15 DQD8+ (out), W16 DQD9- (out), W17 DQD10+ (out), W18 DQ0+ (out), W19 DQ1+ (out), W20 DQ1- (out), Y10 DQD0+ (out), Y12 DQD3+ (out), Y14 DQD6+ (out), Y16 DQD9+ (out), Y18 DQD11+ (out), Y19 DQD11- (out)
part C pins: A3 SDO (oe), A4 TPM (in), A5 NDM (in), B1 VBG (out), B3 ~{ECE} (in), B4 SDI (in), B5 CALRUN (out), C2 VCMO (out), C4 ~{SCS} (in), C5 SCLK (in), D6 CAL (in), U2 CLK+ (in), U6 RCOUT1- (out), V1 CLK- (in), V2 DCLK_RST+ (in), V4 CALDLY (in), V5 DES (in), V6 RCOUT2+ (out), V7 RCOUT2- (out), W1 DCLK_RST- (in), W4 DDRPH (in), W5 RCLK- (in), Y3 FSR (in), Y4 RCLK+ (in), Y5 RCOUT1+ (out)
part D pins: A2 VA (power), A6 VA (power), A8 VE (power), A11 VDR (power), A15 VDR (power), B6 VA (power), B9 VE (power), C1 RTRIM+, C3 REXT+, C6 VA (power), C7 NC, C8 VE (power), C18 VDR (power), D1 DNC, D2 RTRIM-, D3 REXT-, D7 DNC, D8 VA (power), D9 VA (power), D11 VDR (power), D15 VDR (power), D17 VDR (power), E1 VA (power), E2 TDIODE+, E3 DNC, F1 VA (power), F3 TDIODE-, F4 DNC, G1 VTC (power), G3 VTC (power), G4 VTC (power), H2 VTC (power), H4 VA (power), J3 VTC (power), J17 VDR (power), J20 VDR (power), K3 VTC (power), L3 VTC (power), M3 VTC (power), N2 VTC (power), N4 VA (power), P1 VTC (power), P3 VTC (power), P4 VTC (power), R1 VA (power), R3 VTC (power), R4 VTC (power), R17 VDR (power), R20 VDR (power), T1 VA (power), T17 VDR (power), U7 DNC, U8 VA (power), U9 VA (power), U11 VDR (power), U15 VDR (power), U16 VDR (power), V8 VE (power), W3 DNC, W6 VA (power), W9 VE (power), Y2 VA (power), Y6 VA (power), Y8 VE (power), Y11 VDR (power), Y15 VDR (power)
part E pins: A1 GND (power), A7 GND (power), A9 GNDE (power), A13 GNDDR (power), A17 GNDDR (power), A20 GNDDR (power), B2 GND (power), B7 GND (power), B8 GNDE (power), C9 GNDE (power), D4 GND (power), D5 GND (power), D13 GNDDR (power), D16 GNDDR (power), E4 GND (power), E17 GNDDR (power), F2 GNDTC (power), F17 GNDDR (power), F20 GNDDR (power), G2 GNDTC (power), H3 GNDTC (power), H8 GND (power), H9 GND (power), H10 GND (power), H11 GND (power), H12 GND (power), H13 GND (power), J2 GNDTC (power), J8 GND (power), J9 GND (power), J10 GND (power), J11 GND (power), J12 GND (power), J13 GND (power), K1 GND (power), K4 GNDTC (power), K8 GND (power), K9 GND (power), K10 GND (power), K11 GND (power), K12 GND (power), K13 GND (power), L1 GND (power), L4 GNDTC (power), L8 GND (power), L9 GND (power), L10 GND (power), L11 GND (power), L12 GND (power), L13 GND (power), M2 GNDTC (power), M8 GND (power), M9 GND (power), M10 GND (power), M11 GND (power), M12 GND (power), M13 GND (power), M17 GNDDR (power), M20 GNDDR (power), N3 GNDTC (power), N8 GND (power), N9 GND (power), N10 GND (power), N11 GND (power), N12 GND (power), N13 GND (power), P2 GNDTC (power), R2 GNDTC (power), T2 GNDTC (power), T3 GNDTC (power), T4 GND (power), U1 GNDTC (power), U4 GND (power), U5 GND (power), U13 GNDDR (power), U17 GNDDR (power), V9 GNDE (power), V18 GNDDR (power), W2 GND (power), W7 GND (power), W8 GNDE (power), Y1 GND (power), Y7 GND (power), Y9 GNDE (power), Y13 GNDDR (power), Y17 GNDDR (power), Y20 GNDDR (power)

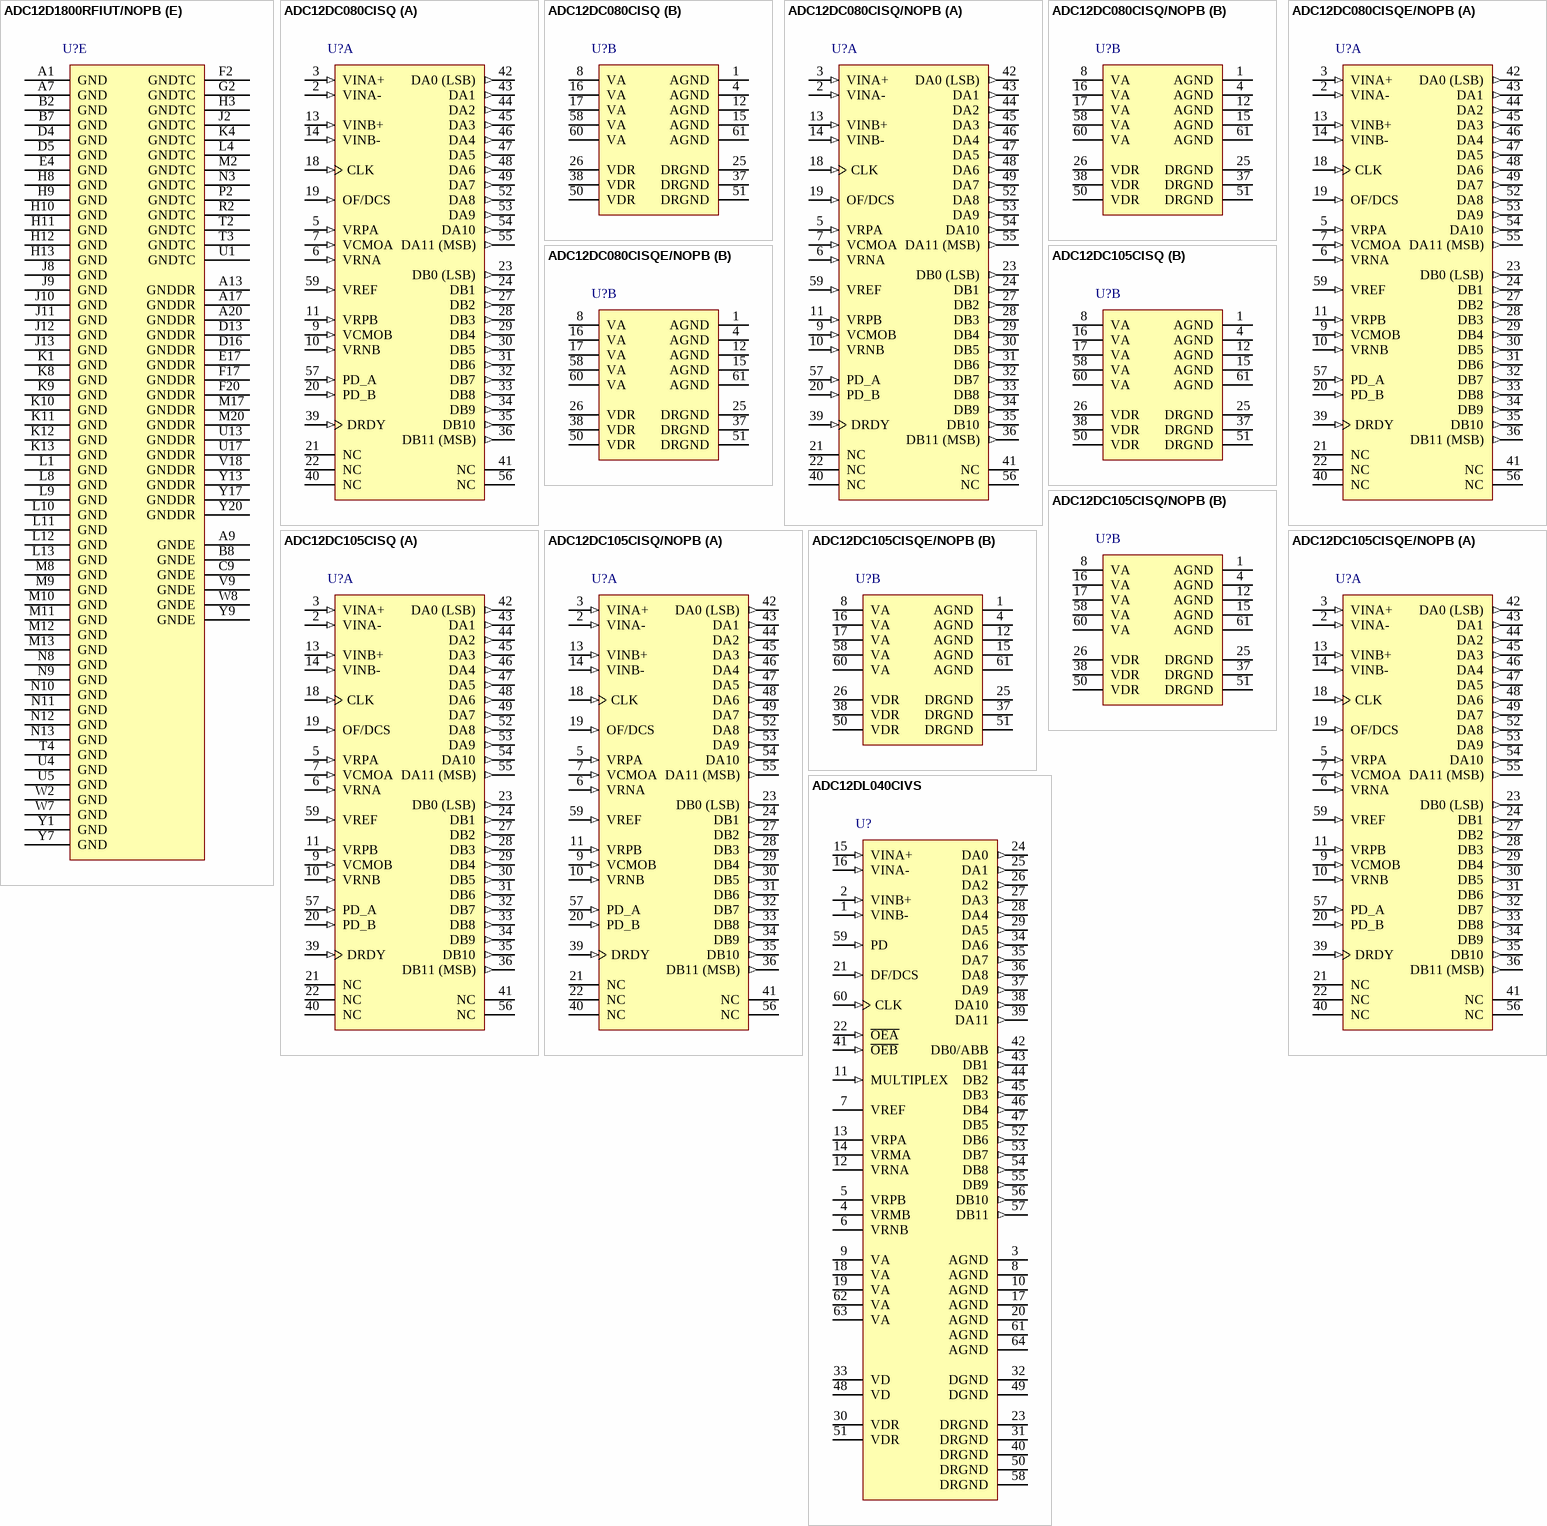
[diagram p24: symbols ADC12D1800RFIUT/NOPB to ADC12DL040CIVS]

## ADC12D1800RFIUT/NOPB
designator U?
12-Bit, Single 3.6 GSPS RF Sampling ADC, 292-pin TEPBGA; PartNumber: ADC12D1800RFIUT/NOPB; Manufacturer: National Semiconductor; PackageTopMarking: NSUZXYYTTE#*ADC12D1800RFIUT; PowerWise: Y; CompType: ADC IC; DatasheetVersion: Apr-2013; PackageVersion: revA, Jul-2001; PackageReference: UFH292A; PackageDescription: TE-PBGA, 27 x 27 x 2.38mm, 292 Ball, 1.27mm Pitch; RoHS: Y; PinCount: 292; Code_JEDEC: MS-034-BAL-2; ComponentLink1Description: ADC12D1800 Datasheet; ComponentLink1URL: http://www.ti.com/lit/ds/symlink/adc12d1800rf.pdf; ComponentLink2Description: ADC12D1800 Web Page; ComponentLink2URL: http://www.national.com/pf/AD/ADC12D1800.html; ComponentLink3Description: UFH292A Package Page; ComponentLink3URL: http://www.national.com/packaging/folders/ufh292a.html
footprint UFH292A (BGA, 292-Leads, Body 27x27mm, Pitch 1.27mm)
part A pins: A10 DID0+ (out), A12 DID3+ (out), A14 DID6+ (out), A16 DID9+ (out), A18 DID11+ (out), A19 DID11- (out), B10 DID0- (out), B11 DID2+ (out), B12 DID3- (out), B13 DID5+ (out), B14 DID6- (out), B15 DID8+ (out), B16 DID9- (out), B17 DID10+ (out), B18 DI0+ (out), B19 DI1+ (out), B20 DI1- (out), C10 DID1+ (out), C11 DID2- (out), C12 DID4+ (out), C13 DID5- (out), C14 DID7+ (out), C15 DID8- (out), C16 DID10- (out), C17 DI0- (out), C19 DI2+ (out), C20 DI2- (out), D10 DID1- (out), D12 DID4- (out), D14 DID7- (out), D18 DI3+ (out), D19 DI4+ (out), D20 DI4- (out), E18 DI3- (out), E19 DI5+ (out), E20 DI5- (out), F18 DI6+ (out), F19 DI6- (out), G17 DI7+ (out), G18 DI7- (out), G19 DI8+ (out), G20 DI8- (out), H1 VINI+ (in), H17 DI9+ (out), H18 DI9- (out), H19 DI10+ (out), H20 DI10- (out), J1 VINI- (in), J4 VBIASI, J18 DI11+ (out), J19 DI11- (out), K2 VBIASI, K17 ORI+ (out), K18 ORI- (out), K19 DCLKI+ (out), K20 DCLKI- (out), U3 PDI (in)
part B pins: L2 VBIASQ, L17 ORQ+ (out), L18 ORQ- (out), L19 DCLKQ+ (out), L20 DCLKQ- (out), M1 VINQ- (in), M4 VBIASQ, M18 DQ11+ (out), M19 DQ11- (out), N1 VINQ+ (in), N17 DQ9+ (out), N18 DQ9- (out), N19 DQ10+ (out), N20 DQ10- (out), P17 DQ7+ (out), P18 DQ7- (out), P19 DQ8+ (out), P20 DQ8- (out), R18 DQ6+ (out), R19 DQ6- (out), T18 DQ3- (out), T19 DQ5+ (out), T20 DQ5- (out), U10 DQD1- (out), U12 DQD4- (out), U14 DQD7- (out), U18 DQ3+ (out), U19 DQ4+ (out), U20 DQ4- (out), V3 PDQ (in), V10 DQD1+ (out), V11 DQD2- (out), V12 DQD4+ (out), V13 DQD5- (out), V14 DQD7+ (out), V15 DQD8- (out), V16 DQD10- (out), V17 DQ0- (out), V19 DQ2+ (out), V20 DQ2- (out), W10 DQD0- (out), W11 DQD2+ (out), W12 DQD3- (out), W13 DQD5+ (out), W14 DQD6- (out), W15 DQD8+ (out), W16 DQD9- (out), W17 DQD10+ (out), W18 DQ0+ (out), W19 DQ1+ (out), W20 DQ1- (out), Y10 DQD0+ (out), Y12 DQD3+ (out), Y14 DQD6+ (out), Y16 DQD9+ (out), Y18 DQD11+ (out), Y19 DQD11- (out)
part C pins: A3 SDO (oe), A4 TPM (in), A5 NDM (in), B1 VBG (out), B3 ~{ECE} (in), B4 SDI (in), B5 CALRUN (out), C2 VCMO (out), C4 ~{SCS} (in), C5 SCLK (in), D6 CAL (in), U2 CLK+ (in), U6 RCOUT1- (out), V1 CLK- (in), V2 DCLK_RST+ (in), V4 CALDLY (in), V5 DES (in), V6 RCOUT2+ (out), V7 RCOUT2- (out), W1 DCLK_RST- (in), W4 DDRPH (in), W5 RCLK- (in), Y3 FSR (in), Y4 RCLK+ (in), Y5 RCOUT1+ (out)
part D pins: A2 VA (power), A6 VA (power), A8 VE (power), A11 VDR (power), A15 VDR (power), B6 VA (power), B9 VE (power), C1 RTRIM+, C3 REXT+, C6 VA (power), C7 NC, C8 VE (power), C18 VDR (power), D1 DNC, D2 RTRIM-, D3 REXT-, D7 DNC, D8 VA (power), D9 VA (power), D11 VDR (power), D15 VDR (power), D17 VDR (power), E1 VA (power), E2 TDIODE+, E3 DNC, F1 VA (power), F3 TDIODE-, F4 DNC, G1 VTC (power), G3 VTC (power), G4 VTC (power), H2 VTC (power), H4 VA (power), J3 VTC (power), J17 VDR (power), J20 VDR (power), K3 VTC (power), L3 VTC (power), M3 VTC (power), N2 VTC (power), N4 VA (power), P1 VTC (power), P3 VTC (power), P4 VTC (power), R1 VA (power), R3 VTC (power), R4 VTC (power), R17 VDR (power), R20 VDR (power), T1 VA (power), T17 VDR (power), U7 DNC, U8 VA (power), U9 VA (power), U11 VDR (power), U15 VDR (power), U16 VDR (power), V8 VE (power), W3 DNC, W6 VA (power), W9 VE (power), Y2 VA (power), Y6 VA (power), Y8 VE (power), Y11 VDR (power), Y15 VDR (power)
part E pins: A1 GND (power), A7 GND (power), A9 GNDE (power), A13 GNDDR (power), A17 GNDDR (power), A20 GNDDR (power), B2 GND (power), B7 GND (power), B8 GNDE (power), C9 GNDE (power), D4 GND (power), D5 GND (power), D13 GNDDR (power), D16 GNDDR (power), E4 GND (power), E17 GNDDR (power), F2 GNDTC (power), F17 GNDDR (power), F20 GNDDR (power), G2 GNDTC (power), H3 GNDTC (power), H8 GND (power), H9 GND (power), H10 GND (power), H11 GND (power), H12 GND (power), H13 GND (power), J2 GNDTC (power), J8 GND (power), J9 GND (power), J10 GND (power), J11 GND (power), J12 GND (power), J13 GND (power), K1 GND (power), K4 GNDTC (power), K8 GND (power), K9 GND (power), K10 GND (power), K11 GND (power), K12 GND (power), K13 GND (power), L1 GND (power), L4 GNDTC (power), L8 GND (power), L9 GND (power), L10 GND (power), L11 GND (power), L12 GND (power), L13 GND (power), M2 GNDTC (power), M8 GND (power), M9 GND (power), M10 GND (power), M11 GND (power), M12 GND (power), M13 GND (power), M17 GNDDR (power), M20 GNDDR (power), N3 GNDTC (power), N8 GND (power), N9 GND (power), N10 GND (power), N11 GND (power), N12 GND (power), N13 GND (power), P2 GNDTC (power), R2 GNDTC (power), T2 GNDTC (power), T3 GNDTC (power), T4 GND (power), U1 GNDTC (power), U4 GND (power), U5 GND (power), U13 GNDDR (power), U17 GNDDR (power), V9 GNDE (power), V18 GNDDR (power), W2 GND (power), W7 GND (power), W8 GNDE (power), Y1 GND (power), Y7 GND (power), Y9 GNDE (power), Y13 GNDDR (power), Y17 GNDDR (power), Y20 GNDDR (power)

## ADC12DC080CISQ
designator U?
Dual 12-Bit, 80 MSPS A/D Converter with CMOS Outputs, 60 pin LLP; PartNumber: ADC12DC080CISQ; Manufacturer: National Semiconductor; PackageTopMarking: NS*UZXYTT*12DC080*CISQ; PowerWise: Y; CompType: ADC IC; DatasheetVersion: Nov-2008; PackageVersion: revA, Jun-2005; PackageReference: SQA60A; PackageDescription: LLP, Quad, 9 x 9 x 0.8mm, 60 Lead, 0.5mm Pitch, No Pullback; RoHS: N; PinCount: 60; High-Reliability: Y; ComponentLink1Description: ADC12DC080 Datasheet; ComponentLink1URL: http://www.national.com/ds/AD/ADC12DC080.pdf; ComponentLink2Description: ADC12DC080 Web Page; ComponentLink2URL: http://www.national.com/pf/AD/ADC12DC080.html; ComponentLink3Description: SQA60A Package Page; ComponentLink3URL: http://www.national.com/packaging/folders/sqa60a.html
footprint SQA60A (QFN, 60-Leads, Body 9x9mm, Pitch 0.5mm, Thermal Pad 7.3x7.3mm, NSC Recommended)
part A pins: 2 VINA- (in), 3 VINA+ (in), 5 VRPA (in), 6 VRNA (in), 7 VCMOA (in), 9 VCMOB (in), 10 VRNB (in), 11 VRPB (in), 13 VINB+ (in), 14 VINB- (in), 18 CLK (in), 19 OF/DCS (in), 20 PD_B (in), 21 NC, 22 NC, 23 DB0 (LSB) (out), 24 DB1 (out), 27 DB2 (out), 28 DB3 (out), 29 DB4 (out), 30 DB5 (out), 31 DB6 (out), 32 DB7 (out), 33 DB8 (out), 34 DB9 (out), 35 DB10 (out), 36 DB11 (MSB) (out), 39 DRDY (in), 40 NC, 41 NC, 42 DA0 (LSB) (out), 43 DA1 (out), 44 DA2 (out), 45 DA3 (out), 46 DA4 (out), 47 DA5 (out), 48 DA6 (out), 49 DA7 (out), 52 DA8 (out), 53 DA9 (out), 54 DA10 (out), 55 DA11 (MSB) (out), 56 NC, 57 PD_A (in), 59 VREF (in)
part B pins: 1 AGND (power), 4 AGND (power), 8 VA (power), 12 AGND (power), 15 AGND (power), 16 VA (power), 17 VA (power), 25 DRGND (power), 26 VDR (power), 37 DRGND (power), 38 VDR (power), 50 VDR (power), 51 DRGND (power), 58 VA (power), 60 VA (power), 61 AGND (power)

## ADC12DC080CISQ/NOPB
designator U?
Dual 12-Bit, 80 MSPS A/D Converter with CMOS Outputs, 60-pin LLP, Pb-Free; PartNumber: ADC12DC080CISQ/NOPB; Manufacturer: National Semiconductor; PackageTopMarking: NS*UZXYTTE#*12DC080*CISQ; PowerWise: Y; CompType: ADC IC; DatasheetVersion: Nov-2008; PackageVersion: revA, Jun-2005; PackageReference: SQA60A; PackageDescription: LLP, Quad, 9 x 9 x 0.8mm, 60 Lead, 0.5mm Pitch, No Pullback; RoHS: Y; PinCount: 60; High-Reliability: Y; ComponentLink1Description: ADC12DC080 Datasheet; ComponentLink1URL: http://www.national.com/ds/AD/ADC12DC080.pdf; ComponentLink2Description: ADC12DC080 Web Page; ComponentLink2URL: http://www.national.com/pf/AD/ADC12DC080.html; ComponentLink3Description: SQA60A Package Page; ComponentLink3URL: http://www.national.com/packaging/folders/sqa60a.html
footprint SQA60A (QFN, 60-Leads, Body 9x9mm, Pitch 0.5mm, Thermal Pad 7.3x7.3mm, NSC Recommended)
part A pins: 2 VINA- (in), 3 VINA+ (in), 5 VRPA (in), 6 VRNA (in), 7 VCMOA (in), 9 VCMOB (in), 10 VRNB (in), 11 VRPB (in), 13 VINB+ (in), 14 VINB- (in), 18 CLK (in), 19 OF/DCS (in), 20 PD_B (in), 21 NC, 22 NC, 23 DB0 (LSB) (out), 24 DB1 (out), 27 DB2 (out), 28 DB3 (out), 29 DB4 (out), 30 DB5 (out), 31 DB6 (out), 32 DB7 (out), 33 DB8 (out), 34 DB9 (out), 35 DB10 (out), 36 DB11 (MSB) (out), 39 DRDY (in), 40 NC, 41 NC, 42 DA0 (LSB) (out), 43 DA1 (out), 44 DA2 (out), 45 DA3 (out), 46 DA4 (out), 47 DA5 (out), 48 DA6 (out), 49 DA7 (out), 52 DA8 (out), 53 DA9 (out), 54 DA10 (out), 55 DA11 (MSB) (out), 56 NC, 57 PD_A (in), 59 VREF (in)
part B pins: 1 AGND (power), 4 AGND (power), 8 VA (power), 12 AGND (power), 15 AGND (power), 16 VA (power), 17 VA (power), 25 DRGND (power), 26 VDR (power), 37 DRGND (power), 38 VDR (power), 50 VDR (power), 51 DRGND (power), 58 VA (power), 60 VA (power), 61 AGND (power)

## ADC12DC080CISQE/NOPB
designator U?
Dual 12-Bit, 80 MSPS A/D Converter with CMOS Outputs, 60-pin LLP, Pb-Free; PartNumber: ADC12DC080CISQE/NOPB; Manufacturer: National Semiconductor; PackageTopMarking: NS*UZXYTTE#*12DC080*CISQ; PowerWise: N; CompType: ADC IC; High-Reliability: Y; DatasheetVersion: Nov-2008; PackageVersion: revA, Jun-2005; PackageReference: SQA60A; PackageDescription: LLP, Quad, 9 x 9 x 0.8mm, 60 Lead, 0.5mm Pitch, No Pullback; RoHS: Y; PinCount: 60; ComponentLink1Description: ADC12DC080 Datasheet; ComponentLink1URL: http://www.national.com/ds/AD/ADC12DC080.pdf; ComponentLink2Description: ADC12DC080 Web Page; ComponentLink2URL: http://www.national.com/pf/AD/ADC12DC080.html; ComponentLink3Description: SQA60A Package Page; ComponentLink3URL: http://www.national.com/packaging/folders/sqa60a.html
footprint SQA60A (QFN, 60-Leads, Body 9x9mm, Pitch 0.5mm, Thermal Pad 7.3x7.3mm, NSC Recommended)
part A pins: 2 VINA- (in), 3 VINA+ (in), 5 VRPA (in), 6 VRNA (in), 7 VCMOA (in), 9 VCMOB (in), 10 VRNB (in), 11 VRPB (in), 13 VINB+ (in), 14 VINB- (in), 18 CLK (in), 19 OF/DCS (in), 20 PD_B (in), 21 NC, 22 NC, 23 DB0 (LSB) (out), 24 DB1 (out), 27 DB2 (out), 28 DB3 (out), 29 DB4 (out), 30 DB5 (out), 31 DB6 (out), 32 DB7 (out), 33 DB8 (out), 34 DB9 (out), 35 DB10 (out), 36 DB11 (MSB) (out), 39 DRDY (in), 40 NC, 41 NC, 42 DA0 (LSB) (out), 43 DA1 (out), 44 DA2 (out), 45 DA3 (out), 46 DA4 (out), 47 DA5 (out), 48 DA6 (out), 49 DA7 (out), 52 DA8 (out), 53 DA9 (out), 54 DA10 (out), 55 DA11 (MSB) (out), 56 NC, 57 PD_A (in), 59 VREF (in)
part B pins: 1 AGND (power), 4 AGND (power), 8 VA (power), 12 AGND (power), 15 AGND (power), 16 VA (power), 17 VA (power), 25 DRGND (power), 26 VDR (power), 37 DRGND (power), 38 VDR (power), 50 VDR (power), 51 DRGND (power), 58 VA (power), 60 VA (power), 61 AGND (power)

## ADC12DC105CISQ
designator U?
Dual 12-Bit, 105 MSPS A/D Converter with CMOS Outputs, 60 pin LLP; PartNumber: ADC12DC105CISQ; Manufacturer: National Semiconductor; PackageTopMarking: NS*UZXYTT*12DC105*CISQ; PowerWise: Y; CompType: ADC IC; DatasheetVersion: Oct-2008; PackageVersion: revA, Jun-2005; PackageReference: SQA60A; PackageDescription: LLP, Quad, 9 x 9 x 0.8mm, 60 Lead, 0.5mm Pitch, No Pullback; RoHS: Y; PinCount: 60; High-Reliability: Y; ComponentLink1Description: ADC12DC105 Datasheet; ComponentLink1URL: http://www.national.com/ds/AD/ADC12DC105.pdf; ComponentLink2Description: ADC12DC105 Web Page; ComponentLink2URL: http://www.national.com/pf/AD/ADC12DC105.html; ComponentLink3Description: SQA60A Package Page; ComponentLink3URL: http://www.national.com/packaging/folders/sqa60a.html
footprint SQA60A (QFN, 60-Leads, Body 9x9mm, Pitch 0.5mm, Thermal Pad 7.3x7.3mm, NSC Recommended)
part A pins: 2 VINA- (in), 3 VINA+ (in), 5 VRPA (in), 6 VRNA (in), 7 VCMOA (in), 9 VCMOB (in), 10 VRNB (in), 11 VRPB (in), 13 VINB+ (in), 14 VINB- (in), 18 CLK (in), 19 OF/DCS (in), 20 PD_B (in), 21 NC, 22 NC, 23 DB0 (LSB) (out), 24 DB1 (out), 27 DB2 (out), 28 DB3 (out), 29 DB4 (out), 30 DB5 (out), 31 DB6 (out), 32 DB7 (out), 33 DB8 (out), 34 DB9 (out), 35 DB10 (out), 36 DB11 (MSB) (out), 39 DRDY (in), 40 NC, 41 NC, 42 DA0 (LSB) (out), 43 DA1 (out), 44 DA2 (out), 45 DA3 (out), 46 DA4 (out), 47 DA5 (out), 48 DA6 (out), 49 DA7 (out), 52 DA8 (out), 53 DA9 (out), 54 DA10 (out), 55 DA11 (MSB) (out), 56 NC, 57 PD_A (in), 59 VREF (in)
part B pins: 1 AGND (power), 4 AGND (power), 8 VA (power), 12 AGND (power), 15 AGND (power), 16 VA (power), 17 VA (power), 25 DRGND (power), 26 VDR (power), 37 DRGND (power), 38 VDR (power), 50 VDR (power), 51 DRGND (power), 58 VA (power), 60 VA (power), 61 AGND (power)

## ADC12DC105CISQ/NOPB
designator U?
Dual 12-Bit, 105 MSPS A/D Converter with CMOS Outputs, 60-pin LLP, Pb-Free; PartNumber: ADC12DC105CISQ/NOPB; Manufacturer: National Semiconductor; PackageTopMarking: NS*UZXYTTE#*12DC105*CISQ; PowerWise: Y; CompType: ADC IC; DatasheetVersion: Oct-2008; PackageVersion: revA, Jun-2005; PackageReference: SQA60A; PackageDescription: LLP, Quad, 9 x 9 x 0.8mm, 60 Lead, 0.5mm Pitch, No Pullback; RoHS: Y; PinCount: 60; High-Reliability: Y; ComponentLink1Description: ADC12DC105 Datasheet; ComponentLink1URL: http://www.national.com/ds/AD/ADC12DC105.pdf; ComponentLink2Description: ADC12DC105 Web Page; ComponentLink2URL: http://www.national.com/pf/AD/ADC12DC105.html; ComponentLink3Description: SQA60A Package Page; ComponentLink3URL: http://www.national.com/packaging/folders/sqa60a.html
footprint SQA60A (QFN, 60-Leads, Body 9x9mm, Pitch 0.5mm, Thermal Pad 7.3x7.3mm, NSC Recommended)
part A pins: 2 VINA- (in), 3 VINA+ (in), 5 VRPA (in), 6 VRNA (in), 7 VCMOA (in), 9 VCMOB (in), 10 VRNB (in), 11 VRPB (in), 13 VINB+ (in), 14 VINB- (in), 18 CLK (in), 19 OF/DCS (in), 20 PD_B (in), 21 NC, 22 NC, 23 DB0 (LSB) (out), 24 DB1 (out), 27 DB2 (out), 28 DB3 (out), 29 DB4 (out), 30 DB5 (out), 31 DB6 (out), 32 DB7 (out), 33 DB8 (out), 34 DB9 (out), 35 DB10 (out), 36 DB11 (MSB) (out), 39 DRDY (in), 40 NC, 41 NC, 42 DA0 (LSB) (out), 43 DA1 (out), 44 DA2 (out), 45 DA3 (out), 46 DA4 (out), 47 DA5 (out), 48 DA6 (out), 49 DA7 (out), 52 DA8 (out), 53 DA9 (out), 54 DA10 (out), 55 DA11 (MSB) (out), 56 NC, 57 PD_A (in), 59 VREF (in)
part B pins: 1 AGND (power), 4 AGND (power), 8 VA (power), 12 AGND (power), 15 AGND (power), 16 VA (power), 17 VA (power), 25 DRGND (power), 26 VDR (power), 37 DRGND (power), 38 VDR (power), 50 VDR (power), 51 DRGND (power), 58 VA (power), 60 VA (power), 61 AGND (power)

## ADC12DC105CISQE/NOPB
designator U?
Dual 12-Bit, 105 MSPS A/D Converter with CMOS Outputs, 60-pin LLP, Pb-Free; PartNumber: ADC12DC105CISQE/NOPB; Manufacturer: National Semiconductor; PackageTopMarking: NS*UZXYTTE#*12DC105*CISQ; PowerWise: N; CompType: ADC IC; High-Reliability: Y; DatasheetVersion: Oct-2008; PackageVersion: revA, Jun-2005; PackageReference: SQA60A; PackageDescription: LLP, Quad, 9 x 9 x 0.8mm, 60 Lead, 0.5mm Pitch, No Pullback; RoHS: Y; PinCount: 60; ComponentLink1Description: ADC12DC105 Datasheet; ComponentLink1URL: http://www.national.com/ds/AD/ADC12DC105.pdf; ComponentLink2Description: ADC12DC105 Web Page; ComponentLink2URL: http://www.national.com/pf/AD/ADC12DC105.html; ComponentLink3Description: SQA60A Package Page; ComponentLink3URL: http://www.national.com/packaging/folders/sqa60a.html
footprint SQA60A (QFN, 60-Leads, Body 9x9mm, Pitch 0.5mm, Thermal Pad 7.3x7.3mm, NSC Recommended)
part A pins: 2 VINA- (in), 3 VINA+ (in), 5 VRPA (in), 6 VRNA (in), 7 VCMOA (in), 9 VCMOB (in), 10 VRNB (in), 11 VRPB (in), 13 VINB+ (in), 14 VINB- (in), 18 CLK (in), 19 OF/DCS (in), 20 PD_B (in), 21 NC, 22 NC, 23 DB0 (LSB) (out), 24 DB1 (out), 27 DB2 (out), 28 DB3 (out), 29 DB4 (out), 30 DB5 (out), 31 DB6 (out), 32 DB7 (out), 33 DB8 (out), 34 DB9 (out), 35 DB10 (out), 36 DB11 (MSB) (out), 39 DRDY (in), 40 NC, 41 NC, 42 DA0 (LSB) (out), 43 DA1 (out), 44 DA2 (out), 45 DA3 (out), 46 DA4 (out), 47 DA5 (out), 48 DA6 (out), 49 DA7 (out), 52 DA8 (out), 53 DA9 (out), 54 DA10 (out), 55 DA11 (MSB) (out), 56 NC, 57 PD_A (in), 59 VREF (in)
part B pins: 1 AGND (power), 4 AGND (power), 8 VA (power), 12 AGND (power), 15 AGND (power), 16 VA (power), 17 VA (power), 25 DRGND (power), 26 VDR (power), 37 DRGND (power), 38 VDR (power), 50 VDR (power), 51 DRGND (power), 58 VA (power), 60 VA (power), 61 AGND (power)

## ADC12DL040CIVS
designator U?
Dual 12-Bit, 40 MSPS, 3V, 210mW A/D Converter, 64-pin TQFP; PartNumber: ADC12DL040CIVS; Manufacturer: National Semiconductor; PackageTopMarking: NSUZXYYTTE#*ADC12DL040*CIVS; PowerWise: Y; CompType: ADC IC; DatasheetVersion: Feb-2005; PackageVersion: revB, Jul-2003; PackageReference: VEC64A; PackageDescription: TQFP, Jedec Metric, 10 x 10 x 1.0mm, 64 Lead, 0.5mm Pitch; RoHS: N; PinCount: 64; High-Reliability: Y; Code_JEDEC: MS-026-ACD; ComponentLink1Description: ADC12DL040 Datasheet; ComponentLink1URL: http://www.national.com/ds/AD/ADC12DL040.pdf; ComponentLink2Description: ADC12DL040 Web Page; ComponentLink2URL: http://www.national.com/pf/AD/ADC12DL040.html; ComponentLink3Description: VEC64A Package Page; ComponentLink3URL: http://www.national.com/packaging/folders/vec64a.html
footprint VEC64A_N (Thin QFP, 64-Leads, Body 10x10mm, Pitch 0.5mm, IPC Medium Density)
footprint VEC64A_L (Thin QFP, 64-Leads, Body 10x10mm, Pitch 0.5mm, IPC High Density)
footprint VEC64A_M (Thin QFP, 64-Leads, Body 10x10mm, Pitch 0.5mm, IPC Low Density)
pins: 1 VINB- (in), 2 VINB+ (in), 3 AGND (power), 4 VRMB, 5 VRPB, 6 VRNB, 7 VREF (power), 8 AGND (power), 9 VA (power), 10 AGND (power), 11 MULTIPLEX (in), 12 VRNA, 13 VRPA, 14 VRMA, 15 VINA+ (in), 16 VINA- (in), 17 AGND (power), 18 VA (power), 19 VA (power), 20 AGND (power), 21 DF/DCS (in), 22 ~{OEA} (in), 23 DRGND (power), 24 DA0 (out), 25 DA1 (out), 26 DA2 (out), 27 DA3 (out), 28 DA4 (out), 29 DA5 (out), 30 VDR (power), 31 DRGND (power), 32 DGND (power), 33 VD (power), 34 DA6 (out), 35 DA7 (out), 36 DA8 (out), 37 DA9 (out), 38 DA10 (out), 39 DA11 (out), 40 DRGND (power), 41 ~{OEB} (in), 42 DB0/ABB (out), 43 DB1 (out), 44 DB2 (out), 45 DB3 (out), 46 DB4 (out), 47 DB5 (out), 48 VD (power), 49 DGND (power), 50 DRGND (power), 51 VDR (power), 52 DB6 (out), 53 DB7 (out), 54 DB8 (out), 55 DB9 (out), 56 DB10 (out), 57 DB11 (out), 58 DRGND (power), 59 PD (in), 60 CLK (in), 61 AGND (power), 62 VA (power), 63 VA (power), 64 AGND (power)

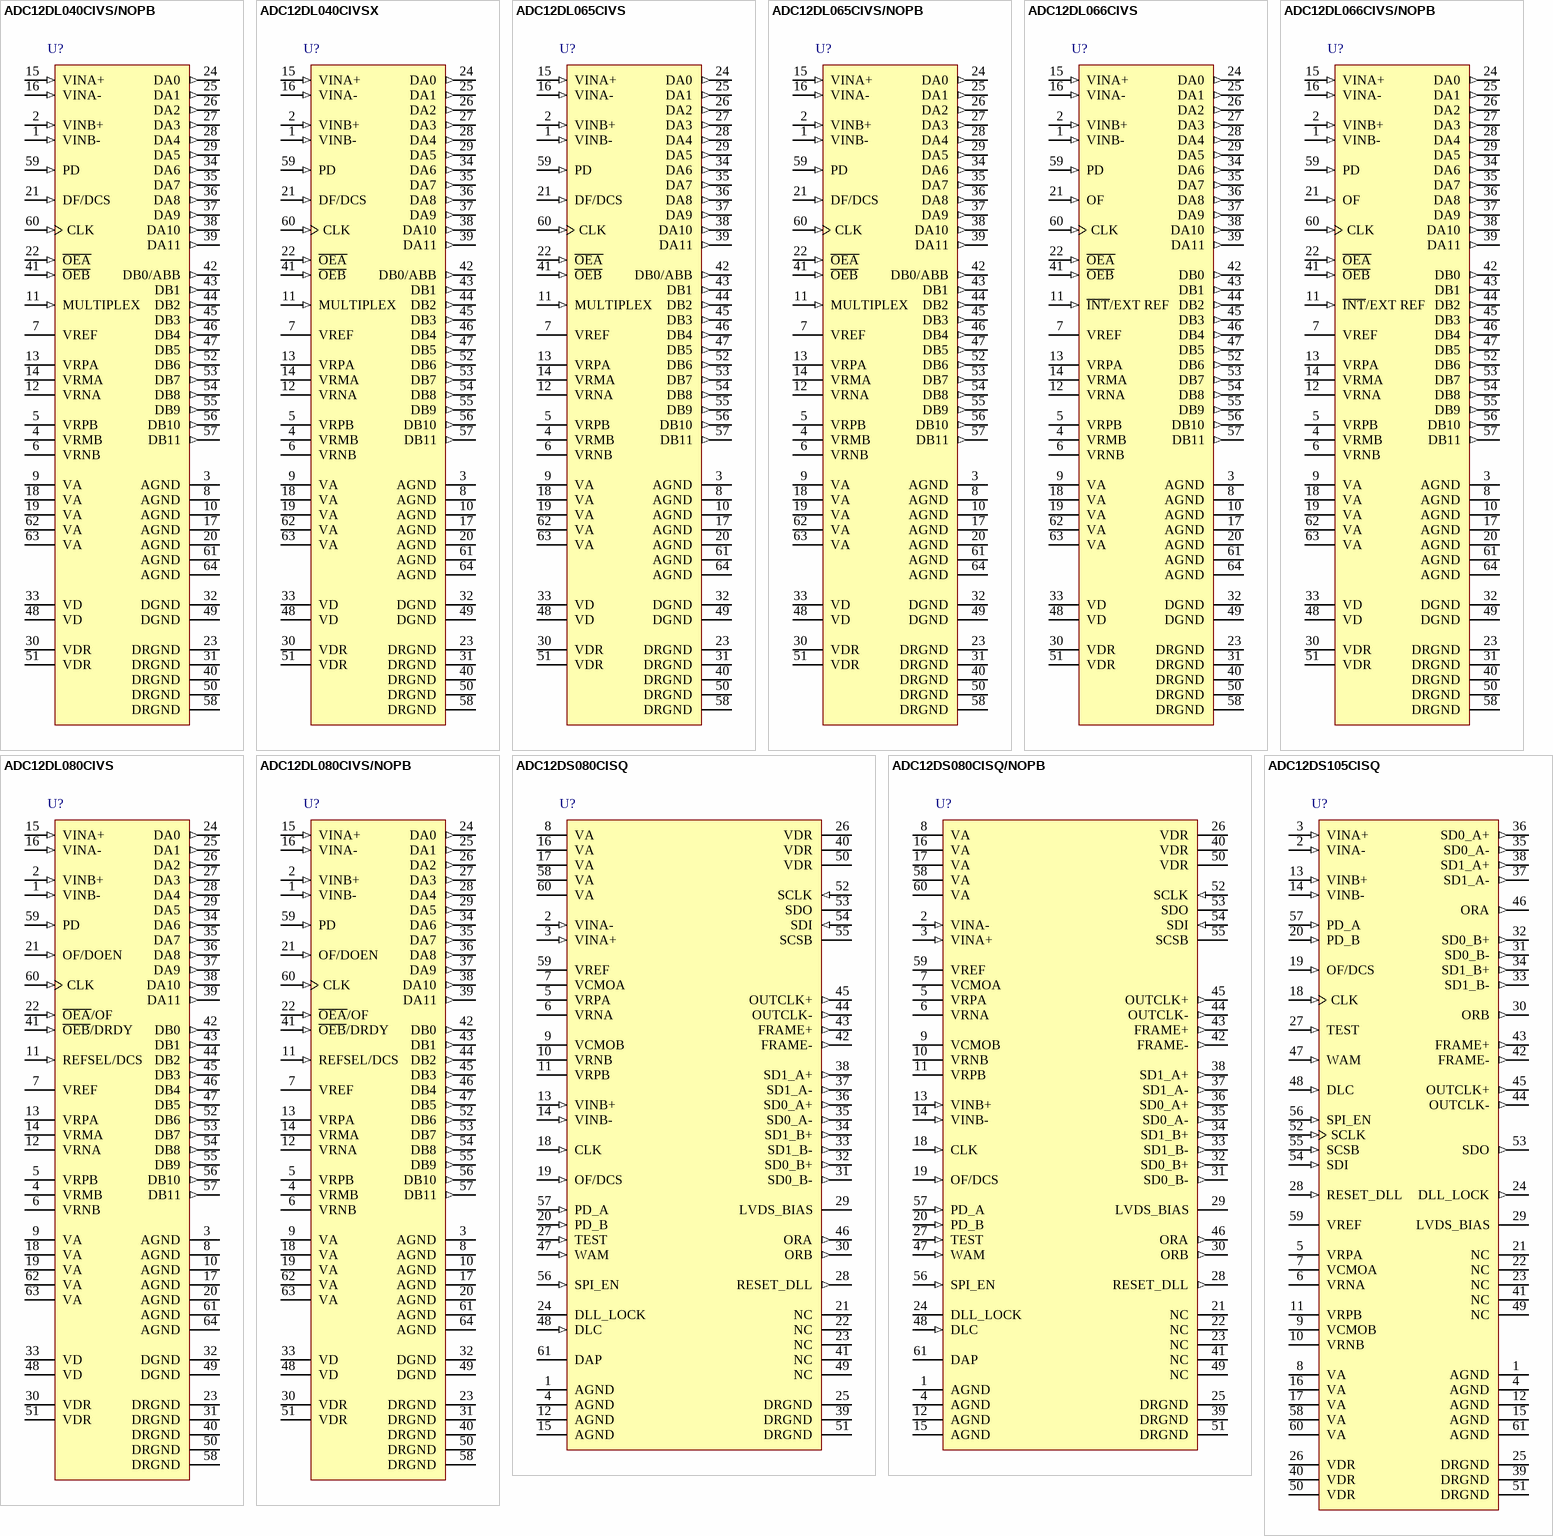
[diagram p25: symbols ADC12DL040CIVS/NOPB to ADC12DS105CISQ]

## ADC12DL040CIVS/NOPB
designator U?
Dual 12-Bit, 40 MSPS, 3V, 210mW A/D Converter, 64-pin TQFP, Pb-Free; PartNumber: ADC12DL040CIVS/NOPB; Manufacturer: National Semiconductor; PackageTopMarking: NSUZXYYTTE#*ADC12DL040*CIVS; PowerWise: Y; CompType: ADC IC; DatasheetVersion: Feb-2005; PackageVersion: revB, Jul-2003; PackageReference: VEC64A; PackageDescription: TQFP, Jedec Metric, 10 x 10 x 1.0mm, 64 Lead, 0.5mm Pitch; RoHS: Y; PinCount: 64; High-Reliability: Y; Code_JEDEC: MS-026-ACD; ComponentLink1Description: ADC12DL040 Datasheet; ComponentLink1URL: http://www.national.com/ds/AD/ADC12DL040.pdf; ComponentLink2Description: ADC12DL040 Web Page; ComponentLink2URL: http://www.national.com/pf/AD/ADC12DL040.html; ComponentLink3Description: VEC64A Package Page; ComponentLink3URL: http://www.national.com/packaging/folders/vec64a.html
footprint VEC64A_N (Thin QFP, 64-Leads, Body 10x10mm, Pitch 0.5mm, IPC Medium Density)
footprint VEC64A_L (Thin QFP, 64-Leads, Body 10x10mm, Pitch 0.5mm, IPC High Density)
footprint VEC64A_M (Thin QFP, 64-Leads, Body 10x10mm, Pitch 0.5mm, IPC Low Density)
pins: 1 VINB- (in), 2 VINB+ (in), 3 AGND (power), 4 VRMB, 5 VRPB, 6 VRNB, 7 VREF (power), 8 AGND (power), 9 VA (power), 10 AGND (power), 11 MULTIPLEX (in), 12 VRNA, 13 VRPA, 14 VRMA, 15 VINA+ (in), 16 VINA- (in), 17 AGND (power), 18 VA (power), 19 VA (power), 20 AGND (power), 21 DF/DCS (in), 22 ~{OEA} (in), 23 DRGND (power), 24 DA0 (out), 25 DA1 (out), 26 DA2 (out), 27 DA3 (out), 28 DA4 (out), 29 DA5 (out), 30 VDR (power), 31 DRGND (power), 32 DGND (power), 33 VD (power), 34 DA6 (out), 35 DA7 (out), 36 DA8 (out), 37 DA9 (out), 38 DA10 (out), 39 DA11 (out), 40 DRGND (power), 41 ~{OEB} (in), 42 DB0/ABB (out), 43 DB1 (out), 44 DB2 (out), 45 DB3 (out), 46 DB4 (out), 47 DB5 (out), 48 VD (power), 49 DGND (power), 50 DRGND (power), 51 VDR (power), 52 DB6 (out), 53 DB7 (out), 54 DB8 (out), 55 DB9 (out), 56 DB10 (out), 57 DB11 (out), 58 DRGND (power), 59 PD (in), 60 CLK (in), 61 AGND (power), 62 VA (power), 63 VA (power), 64 AGND (power)